# Altium schematic symbol library con-3m.SCHLIB: 46 symbols
Pins are listed as number, name and electrical type; pins without a type are passive.

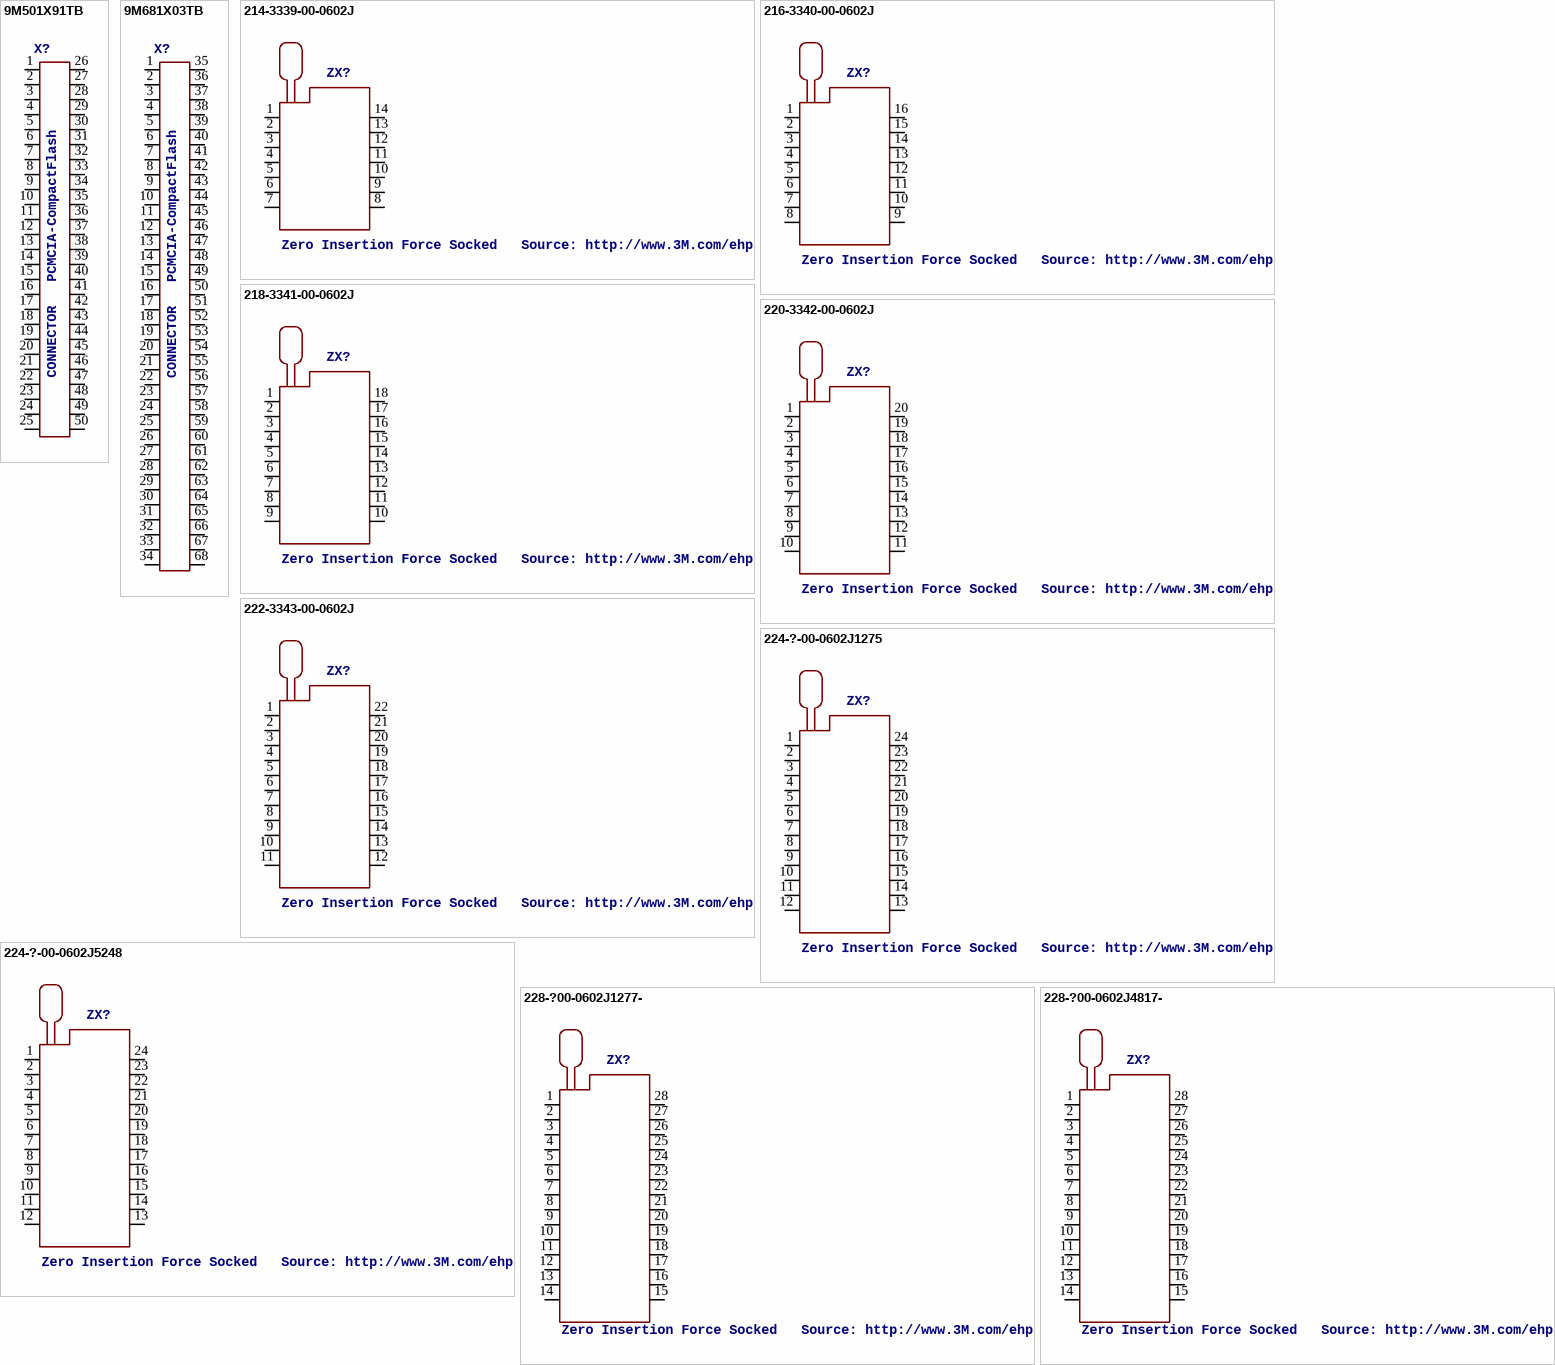
[diagram p0: symbols 9M501X91TB to 228-?00-0602J4817-]

## 9M501X91TB
designator X?, comment CONNECTOR   PCMCIA-CompactFlash
OC_FARNELL: unknown; OC_NEWARK: unknown
footprint 9M501X91
pins: 1, 2, 3, 4, 5, 6, 7, 8, 9, 10, 11, 12, 13, 14, 15, 16, 17, 18, 19, 20, 21, 22, 23, 24, 25, 26, 27, 28, 29, 30, 31, 32, 33, 34, 35, 36, 37, 38, 39, 40, 41, 42, 43, 44, 45, 46, 47, 48, 49, 50

## 9M681X03TB
designator X?, comment CONNECTOR   PCMCIA-CompactFlash
OC_FARNELL: unknown; OC_NEWARK: unknown
footprint 9M681X03
pins: 1, 2, 3, 4, 5, 6, 7, 8, 9, 10, 11, 12, 13, 14, 15, 16, 17, 18, 19, 20, 21, 22, 23, 24, 25, 26, 27, 28, 29, 30, 31, 32, 33, 34, 35, 36, 37, 38, 39, 40, 41, 42, 43, 44, 45, 46, 47, 48, 49, 50, 51, 52, 53, 54, 55, 56, 57, 58, 59, 60, 61, 62, 63, 64, 65, 66, 67, 68

## 214-3339-00-0602J
designator ZX?, comment Zero Insertion Force Socked   Source: http://www.3M.com/ehpd
MPN: 214-3339-00-0602J; MF: 3M; OC_FARNELL: 1247151; OC_NEWARK: 85K7793
footprint 214-3339-00-0602J
pins: 1, 2, 3, 4, 5, 6, 7, 8, 9, 10, 11, 12, 13, 14

## 216-3340-00-0602J
designator ZX?, comment Zero Insertion Force Socked   Source: http://www.3M.com/ehpd
MPN: 216-3340-00-0602J; MF: 3M; OC_FARNELL: 1674399; OC_NEWARK: 85K7797
footprint 216-3340-00-0602J
pins: 1, 2, 3, 4, 5, 6, 7, 8, 9, 10, 11, 12, 13, 14, 15, 16

## 218-3341-00-0602J
designator ZX?, comment Zero Insertion Force Socked   Source: http://www.3M.com/ehpd
MPN: 218-3341-00-0602J; MF: 3M; OC_FARNELL: 9897461; OC_NEWARK: 85K7802
footprint 218-3341-00-0602J
pins: 1, 2, 3, 4, 5, 6, 7, 8, 9, 10, 11, 12, 13, 14, 15, 16, 17, 18

## 220-3342-00-0602J
designator ZX?, comment Zero Insertion Force Socked   Source: http://www.3M.com/ehpd
MPN: 220-3342-00-0602J; MF: 3M; OC_FARNELL: 9897445; OC_NEWARK: 85K7807
footprint 220-3342-00-0602J
pins: 1, 2, 3, 4, 5, 6, 7, 8, 9, 10, 11, 12, 13, 14, 15, 16, 17, 18, 19, 20

## 222-3343-00-0602J
designator ZX?, comment Zero Insertion Force Socked   Source: http://www.3M.com/ehpd
MPN: 222-3343-00-0602J; MF: 3M; OC_FARNELL: unknown; OC_NEWARK: 85K7811
footprint 222-3343-00-0602J
pins: 1, 2, 3, 4, 5, 6, 7, 8, 9, 10, 11, 12, 13, 14, 15, 16, 17, 18, 19, 20, 21, 22

## 224-?-00-0602J1275
designator ZX?, comment Zero Insertion Force Socked   Source: http://www.3M.com/ehpd
MPN: 224-1275-00-0602J; MF: 3M; OC_FARNELL: 9897348; OC_NEWARK: 10C2549
footprint 224-1275-00-0602J
pins: 1, 2, 3, 4, 5, 6, 7, 8, 9, 10, 11, 12, 13, 14, 15, 16, 17, 18, 19, 20, 21, 22, 23, 24

## 224-?-00-0602J5248
designator ZX?, comment Zero Insertion Force Socked   Source: http://www.3M.com/ehpd
MPN: 224-5248-00-0602J; MF: 3M; OC_FARNELL: unknown; OC_NEWARK: 85K7820
footprint 224-5248-00-0602J
pins: 1, 2, 3, 4, 5, 6, 7, 8, 9, 10, 11, 12, 13, 14, 15, 16, 17, 18, 19, 20, 21, 22, 23, 24

## 228-?00-0602J1277-
designator ZX?, comment Zero Insertion Force Socked   Source: http://www.3M.com/ehpd
MPN: 228-1277-00-0602J; MF: 3M; OC_FARNELL: 9897356; OC_NEWARK: 85K7825
footprint 228-1277-00-0602J
pins: 1, 2, 3, 4, 5, 6, 7, 8, 9, 10, 11, 12, 13, 14, 15, 16, 17, 18, 19, 20, 21, 22, 23, 24, 25, 26, 27, 28

## 228-?00-0602J4817-
designator ZX?, comment Zero Insertion Force Socked   Source: http://www.3M.com/ehpd
MPN: 228-4817-00-0602J; MF: 3M; OC_FARNELL: 1252775; OC_NEWARK: 85K7834
footprint 228-4817-00-0602J
pins: 1, 2, 3, 4, 5, 6, 7, 8, 9, 10, 11, 12, 13, 14, 15, 16, 17, 18, 19, 20, 21, 22, 23, 24, 25, 26, 27, 28

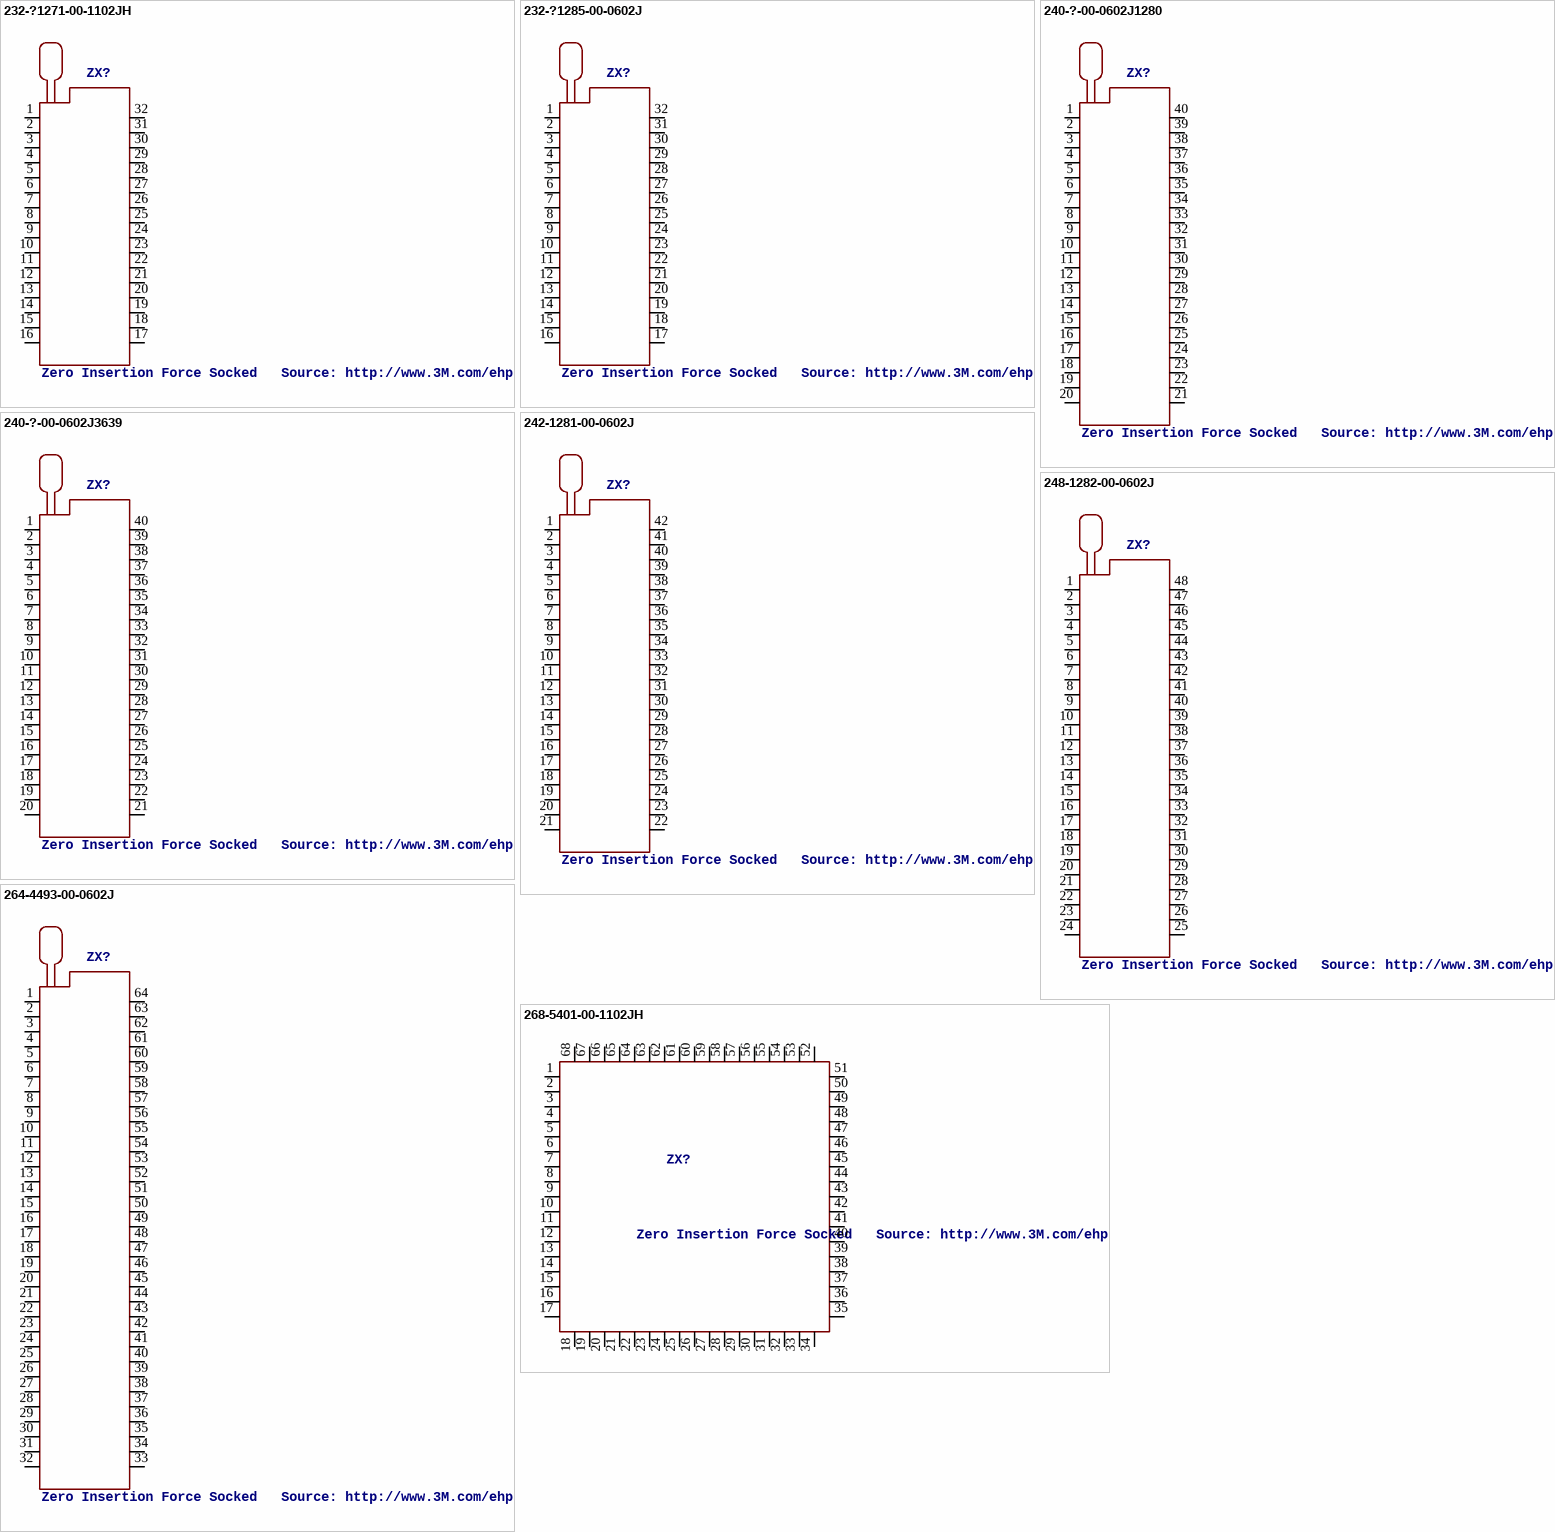
[diagram p1: symbols 232-?1271-00-1102JH to 268-5401-00-1102JH]

## 232-?1271-00-1102JH
designator ZX?, comment Zero Insertion Force Socked   Source: http://www.3M.com/ehpd
MPN: 232-1271-00-1102JH; OC_FARNELL: unknown; OC_NEWARK: 80R8874
footprint 232-1271-00-1102JH
pins: 1, 2, 3, 4, 5, 6, 7, 8, 9, 10, 11, 12, 13, 14, 15, 16, 17, 18, 19, 20, 21, 22, 23, 24, 25, 26, 27, 28, 29, 30, 31, 32

## 232-?1285-00-0602J
designator ZX?, comment Zero Insertion Force Socked   Source: http://www.3M.com/ehpd
MPN: 232-1285-00-0602J; MF: 3M; OC_FARNELL: 9897402; OC_NEWARK: 85K7839
footprint 232-1285-00-0602J
pins: 1, 2, 3, 4, 5, 6, 7, 8, 9, 10, 11, 12, 13, 14, 15, 16, 17, 18, 19, 20, 21, 22, 23, 24, 25, 26, 27, 28, 29, 30, 31, 32

## 240-?-00-0602J1280
designator ZX?, comment Zero Insertion Force Socked   Source: http://www.3M.com/ehpd
MPN: 240-1280-00-0602J; MF: 3M; OC_FARNELL: 9897364; OC_NEWARK: 85K7848
footprint 240-1280-00-0602J
pins: 1, 2, 3, 4, 5, 6, 7, 8, 9, 10, 11, 12, 13, 14, 15, 16, 17, 18, 19, 20, 21, 22, 23, 24, 25, 26, 27, 28, 29, 30, 31, 32, 33, 34, 35, 36, 37, 38, 39, 40

## 240-?-00-0602J3639
designator ZX?, comment Zero Insertion Force Socked   Source: http://www.3M.com/ehpd
MPN: 240-3639-00-0602J; MF: 3M; OC_FARNELL: unknown; OC_NEWARK: 85K7854
footprint 240-3639-00-0602J
pins: 1, 2, 3, 4, 5, 6, 7, 8, 9, 10, 11, 12, 13, 14, 15, 16, 17, 18, 19, 20, 21, 22, 23, 24, 25, 26, 27, 28, 29, 30, 31, 32, 33, 34, 35, 36, 37, 38, 39, 40

## 242-1281-00-0602J
designator ZX?, comment Zero Insertion Force Socked   Source: http://www.3M.com/ehpd
MPN: 242-1281-00-0602J; MF: 3M; OC_FARNELL: unknown; OC_NEWARK: 85K7857
footprint 242-1281-00-0602J
pins: 1, 2, 3, 4, 5, 6, 7, 8, 9, 10, 11, 12, 13, 14, 15, 16, 17, 18, 19, 20, 21, 22, 23, 24, 25, 26, 27, 28, 29, 30, 31, 32, 33, 34, 35, 36, 37, 38, 39, 40, 41, 42

## 248-1282-00-0602J
designator ZX?, comment Zero Insertion Force Socked   Source: http://www.3M.com/ehpd
MPN: 248-1282-00-0602J; MF: 3M; OC_FARNELL: 9897488; OC_NEWARK: 85K7866
footprint 248-1282-00-0602J
pins: 1, 2, 3, 4, 5, 6, 7, 8, 9, 10, 11, 12, 13, 14, 15, 16, 17, 18, 19, 20, 21, 22, 23, 24, 25, 26, 27, 28, 29, 30, 31, 32, 33, 34, 35, 36, 37, 38, 39, 40, 41, 42, 43, 44, 45, 46, 47, 48

## 264-4493-00-0602J
designator ZX?, comment Zero Insertion Force Socked   Source: http://www.3M.com/ehpd
MPN: 264-4493-00-0602J; MF: 3M; OC_FARNELL: 1254441; OC_NEWARK: 85K7875
footprint 264-4493-00-0602J
pins: 1, 2, 3, 4, 5, 6, 7, 8, 9, 10, 11, 12, 13, 14, 15, 16, 17, 18, 19, 20, 21, 22, 23, 24, 25, 26, 27, 28, 29, 30, 31, 32, 33, 34, 35, 36, 37, 38, 39, 40, 41, 42, 43, 44, 45, 46, 47, 48, 49, 50, 51, 52, 53, 54, 55, 56, 57, 58, 59, 60, 61, 62, 63, 64

## 268-5401-00-1102JH
designator ZX?, comment Zero Insertion Force Socked   Source: http://www.3M.com/ehpd
MPN: 268-5401-00-1102JH; OC_FARNELL: unknown; OC_NEWARK: 42M9902
footprint 268-5401-00-1102JH
pins: 1, 2, 3, 4, 5, 6, 7, 8, 9, 10, 11, 12, 13, 14, 15, 16, 17, 18, 19, 20, 21, 22, 23, 24, 25, 26, 27, 28, 29, 30, 31, 32, 33, 34, 35, 36, 37, 38, 39, 40, 41, 42, 43, 44, 45, 46, 47, 48, 49, 50, 51, 52, 53, 54, 55, 56, 57, 58, 59, 60, 61, 62, 63, 64, 65, 66, 67, 68

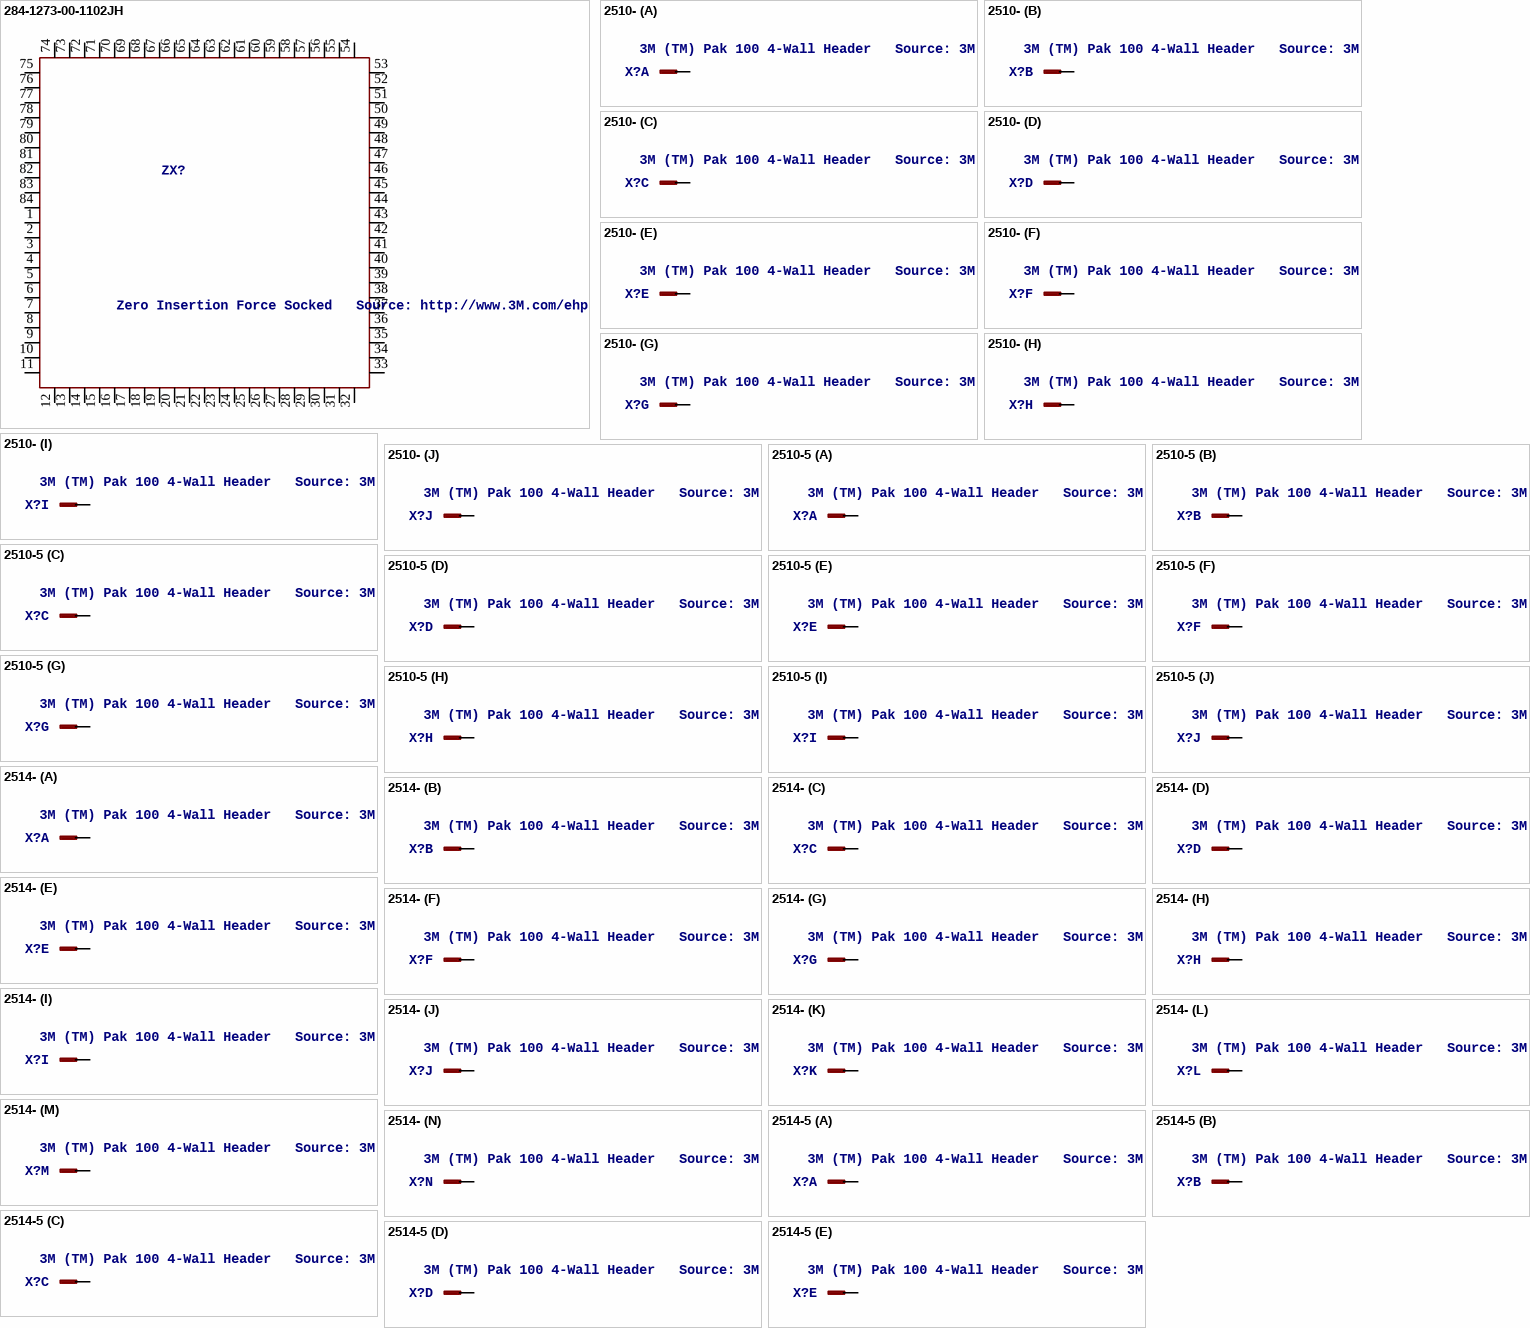
[diagram p2: symbols 284-1273-00-1102JH to 2514-5]

## 284-1273-00-1102JH
designator ZX?, comment Zero Insertion Force Socked   Source: http://www.3M.com/ehpd
OC_FARNELL: unknown; OC_NEWARK: unknown
footprint 284-1273-00-1102JH
pins: 1, 2, 3, 4, 5, 6, 7, 8, 9, 10, 11, 12, 13, 14, 15, 16, 17, 18, 19, 20, 21, 22, 23, 24, 25, 26, 27, 28, 29, 30, 31, 32, 33, 34, 35, 36, 37, 38, 39, 40, 41, 42, 43, 44, 45, 46, 47, 48, 49, 50, 51, 52, 53, 54, 55, 56, 57, 58, 59, 60, 61, 62, 63, 64, 65, 66, 67, 68, 69, 70, 71, 72, 73, 74, 75, 76, 77, 78, 79, 80, 81, 82, 83, 84

## 2510-
designator X?, comment 3M (TM) Pak 100 4-Wall Header   Source: 3M
MPN: 2510-6002UB; MF: 3M; OC_FARNELL: 9838244; OC_NEWARK: 46F4725
footprint PAK100/2500-10
part A pins: 1 KL
part B pins: 2 KL
part C pins: 3 KL
part D pins: 4 KL
part E pins: 5 KL
part F pins: 6 KL
part G pins: 7 KL
part H pins: 8 KL
part I pins: 9 KL
part J pins: 10 KL

## 2510-5
designator X?, comment 3M (TM) Pak 100 4-Wall Header   Source: 3M
OC_FARNELL: 1788669; OC_NEWARK: unknown
footprint PAK100/2500-5-10
part A pins: 1 KL
part B pins: 2 KL
part C pins: 3 KL
part D pins: 4 KL
part E pins: 5 KL
part F pins: 6 KL
part G pins: 7 KL
part H pins: 8 KL
part I pins: 9 KL
part J pins: 10 KL

## 2514-
designator X?, comment 3M (TM) Pak 100 4-Wall Header   Source: 3M
OC_FARNELL: unknown; OC_NEWARK: unknown
footprint PAK100/2500-14
part A pins: 1 KL
part B pins: 2 KL
part C pins: 3 KL
part D pins: 4 KL
part E pins: 5 KL
part F pins: 6 KL
part G pins: 7 KL
part H pins: 8 KL
part I pins: 9 KL
part J pins: 10 KL
part K pins: 11 KL
part L pins: 12 KL
part M pins: 13 KL
part N pins: 14 KL

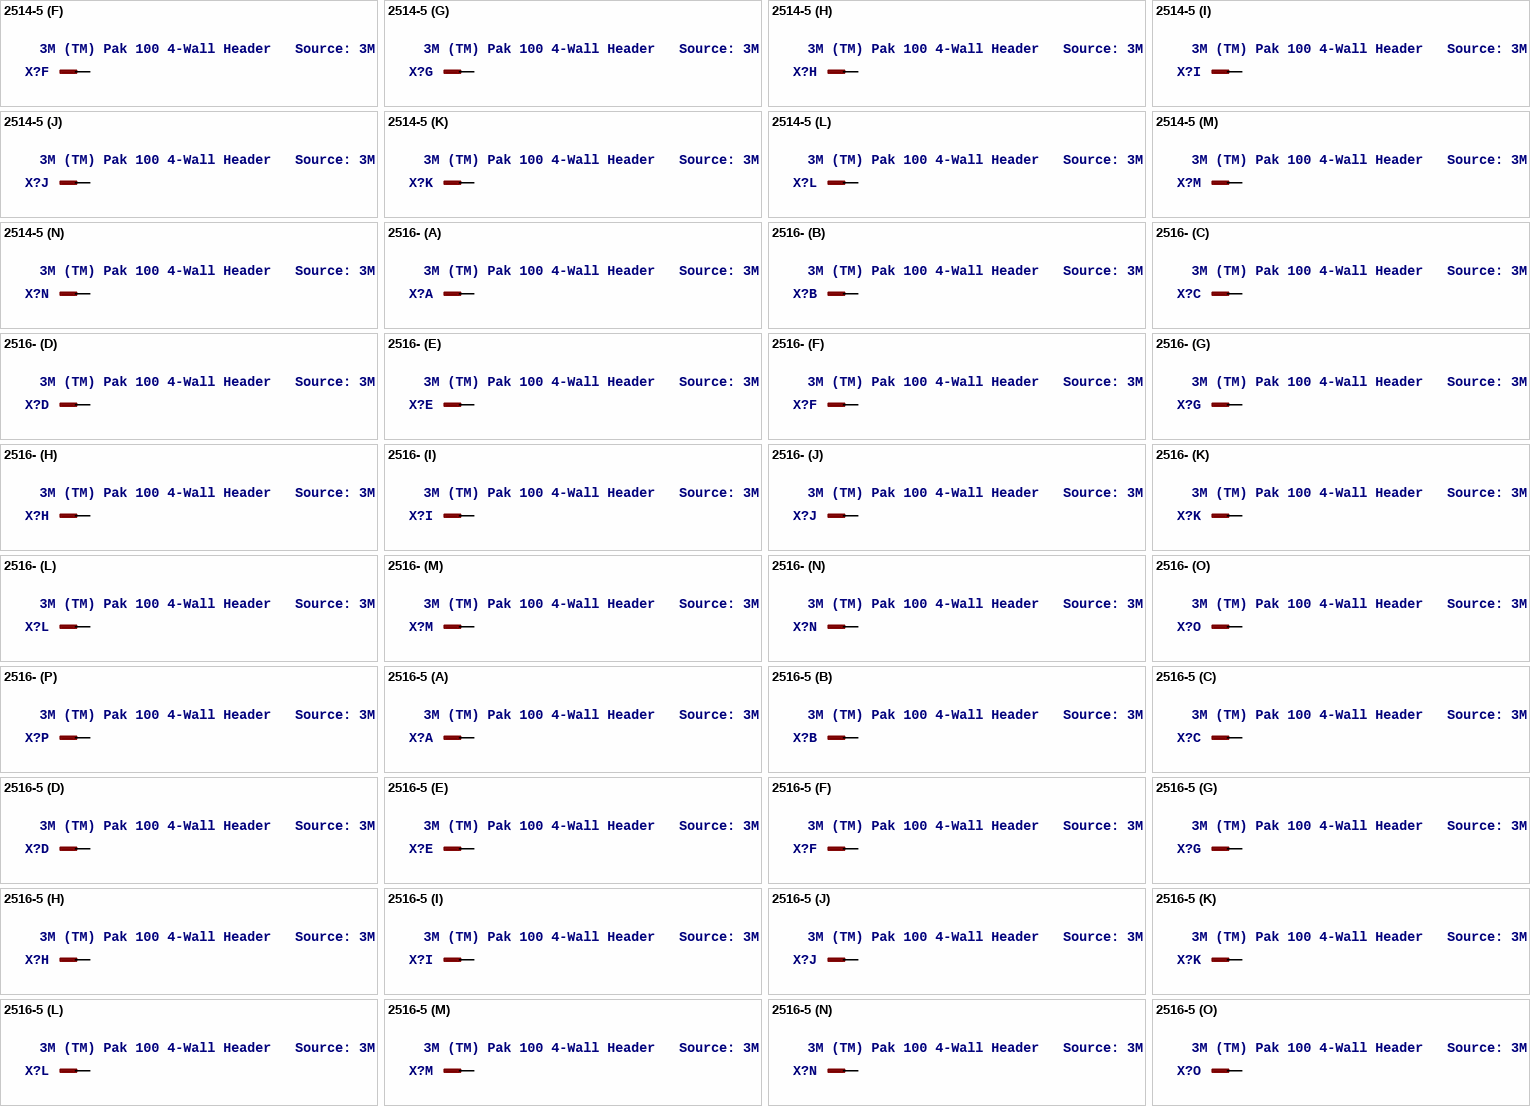
[diagram p3: symbols 2514-5 to 2516-5]

## 2514-5
designator X?, comment 3M (TM) Pak 100 4-Wall Header   Source: 3M
MPN: N2514-5002RB; OC_FARNELL: 1788673; OC_NEWARK: 97K6709
footprint PAK100/2500-5-14
part A pins: 1 KL
part B pins: 2 KL
part C pins: 3 KL
part D pins: 4 KL
part E pins: 5 KL
part F pins: 6 KL
part G pins: 7 KL
part H pins: 8 KL
part I pins: 9 KL
part J pins: 10 KL
part K pins: 11 KL
part L pins: 12 KL
part M pins: 13 KL
part N pins: 14 KL

## 2516-
designator X?, comment 3M (TM) Pak 100 4-Wall Header   Source: 3M
OC_FARNELL: unknown; OC_NEWARK: unknown
footprint PAK100/2500-16
part A pins: 1 KL
part B pins: 2 KL
part C pins: 3 KL
part D pins: 4 KL
part E pins: 5 KL
part F pins: 6 KL
part G pins: 7 KL
part H pins: 8 KL
part I pins: 9 KL
part J pins: 10 KL
part K pins: 11 KL
part L pins: 12 KL
part M pins: 13 KL
part N pins: 14 KL
part O pins: 15 KL
part P pins: 16 KL

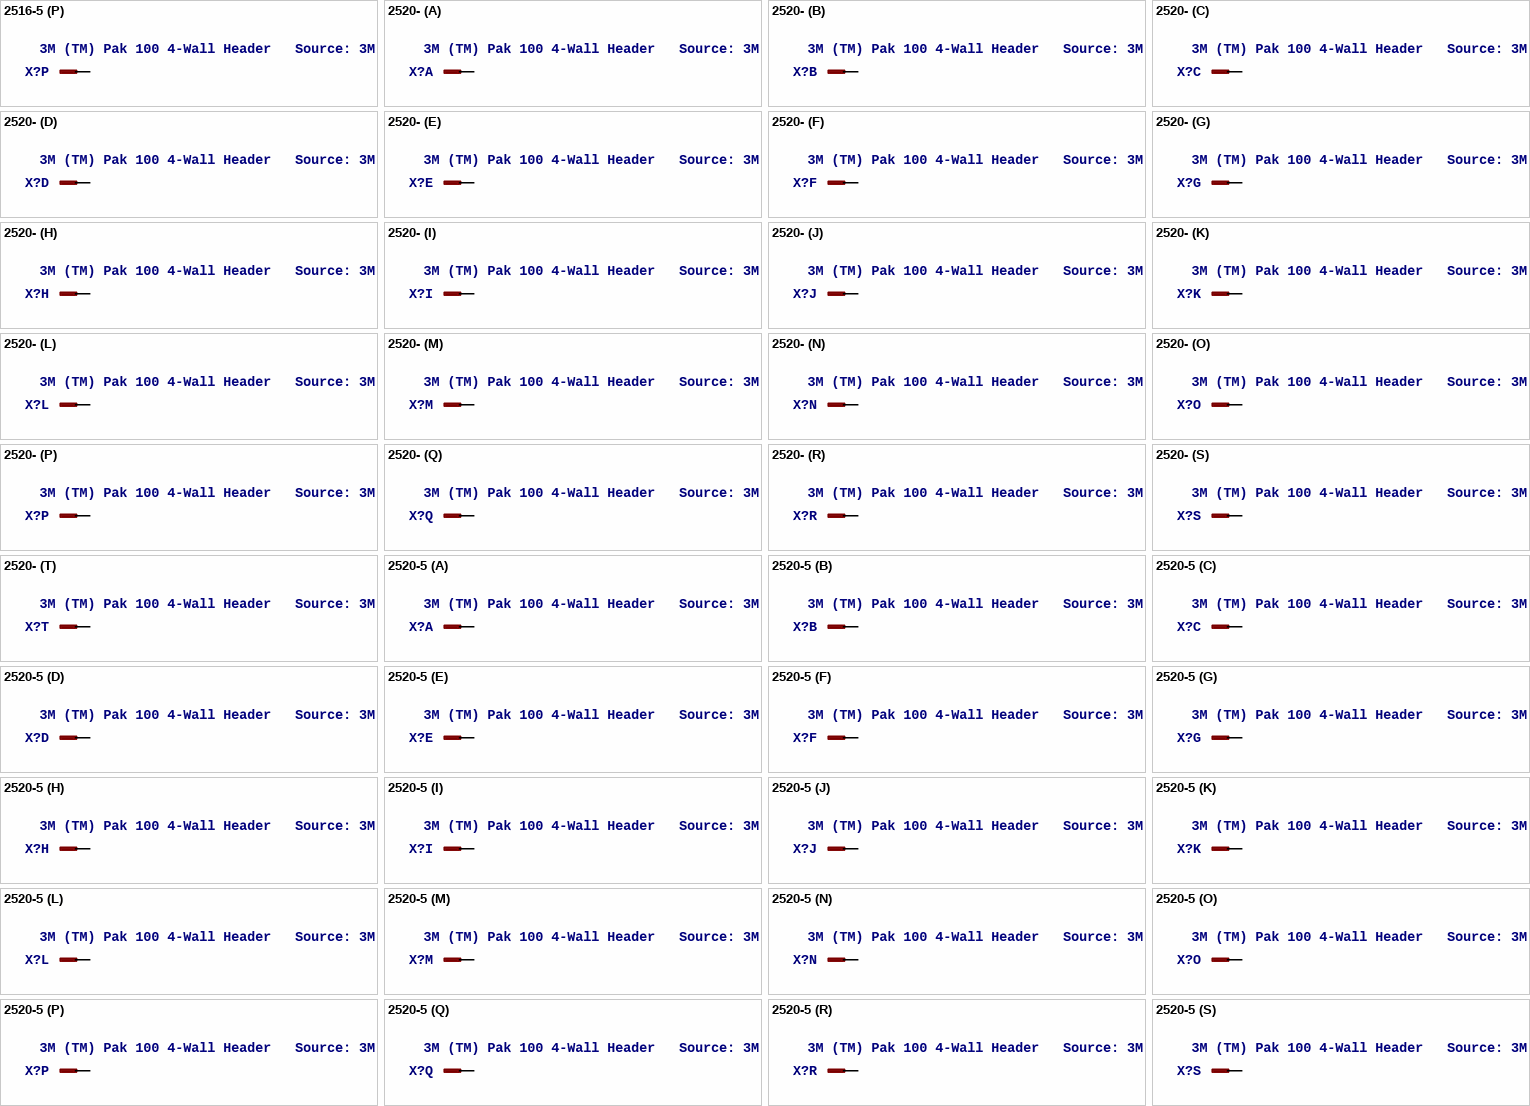
[diagram p4: symbols 2516-5 to 2520-5]

## 2516-5
designator X?, comment 3M (TM) Pak 100 4-Wall Header   Source: 3M
MPN: D2516-5002-AR; OC_FARNELL: 9838376; OC_NEWARK: 12P7055
footprint PAK100/2500-5-16
part A pins: 1 KL
part B pins: 2 KL
part C pins: 3 KL
part D pins: 4 KL
part E pins: 5 KL
part F pins: 6 KL
part G pins: 7 KL
part H pins: 8 KL
part I pins: 9 KL
part J pins: 10 KL
part K pins: 11 KL
part L pins: 12 KL
part M pins: 13 KL
part N pins: 14 KL
part O pins: 15 KL
part P pins: 16 KL

## 2520-
designator X?, comment 3M (TM) Pak 100 4-Wall Header   Source: 3M
OC_FARNELL: unknown; OC_NEWARK: unknown
footprint PAK100/2500-20
part A pins: 1 KL
part B pins: 2 KL
part C pins: 3 KL
part D pins: 4 KL
part E pins: 5 KL
part F pins: 6 KL
part G pins: 7 KL
part H pins: 8 KL
part I pins: 9 KL
part J pins: 10 KL
part K pins: 11 KL
part L pins: 12 KL
part M pins: 13 KL
part N pins: 14 KL
part O pins: 15 KL
part P pins: 16 KL
part Q pins: 17 KL
part R pins: 18 KL
part S pins: 19 KL
part T pins: 20 KL

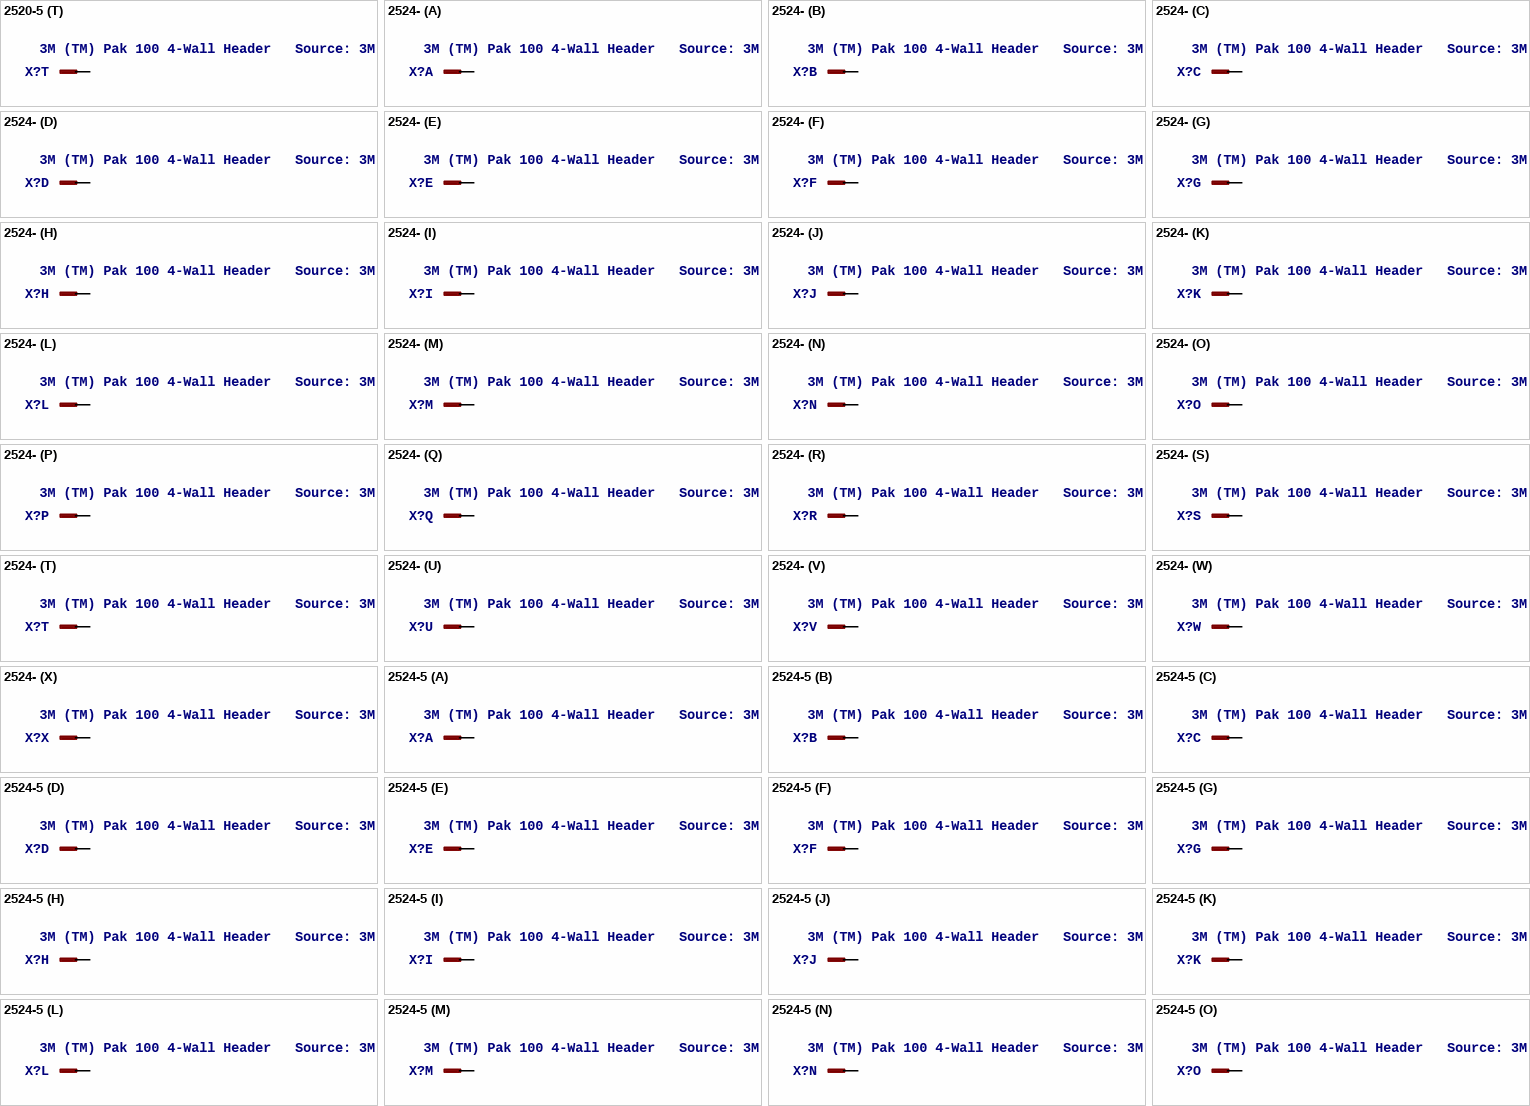
[diagram p5: symbols 2520-5 to 2524-5]

## 2520-5
designator X?, comment 3M (TM) Pak 100 4-Wall Header   Source: 3M
MPN: D2520-5002-AR; OC_FARNELL: unknown; OC_NEWARK: 12P7058
footprint PAK100/2500-5-20
part A pins: 1 KL
part B pins: 2 KL
part C pins: 3 KL
part D pins: 4 KL
part E pins: 5 KL
part F pins: 6 KL
part G pins: 7 KL
part H pins: 8 KL
part I pins: 9 KL
part J pins: 10 KL
part K pins: 11 KL
part L pins: 12 KL
part M pins: 13 KL
part N pins: 14 KL
part O pins: 15 KL
part P pins: 16 KL
part Q pins: 17 KL
part R pins: 18 KL
part S pins: 19 KL
part T pins: 20 KL

## 2524-
designator X?, comment 3M (TM) Pak 100 4-Wall Header   Source: 3M
OC_FARNELL: unknown; OC_NEWARK: unknown
footprint PAK100/2500-24
part A pins: 1 KL
part B pins: 2 KL
part C pins: 3 KL
part D pins: 4 KL
part E pins: 5 KL
part F pins: 6 KL
part G pins: 7 KL
part H pins: 8 KL
part I pins: 9 KL
part J pins: 10 KL
part K pins: 11 KL
part L pins: 12 KL
part M pins: 13 KL
part N pins: 14 KL
part O pins: 15 KL
part P pins: 16 KL
part Q pins: 17 KL
part R pins: 18 KL
part S pins: 19 KL
part T pins: 20 KL
part U pins: 21 KL
part V pins: 22 KL
part W pins: 23 KL
part X pins: 24 KL

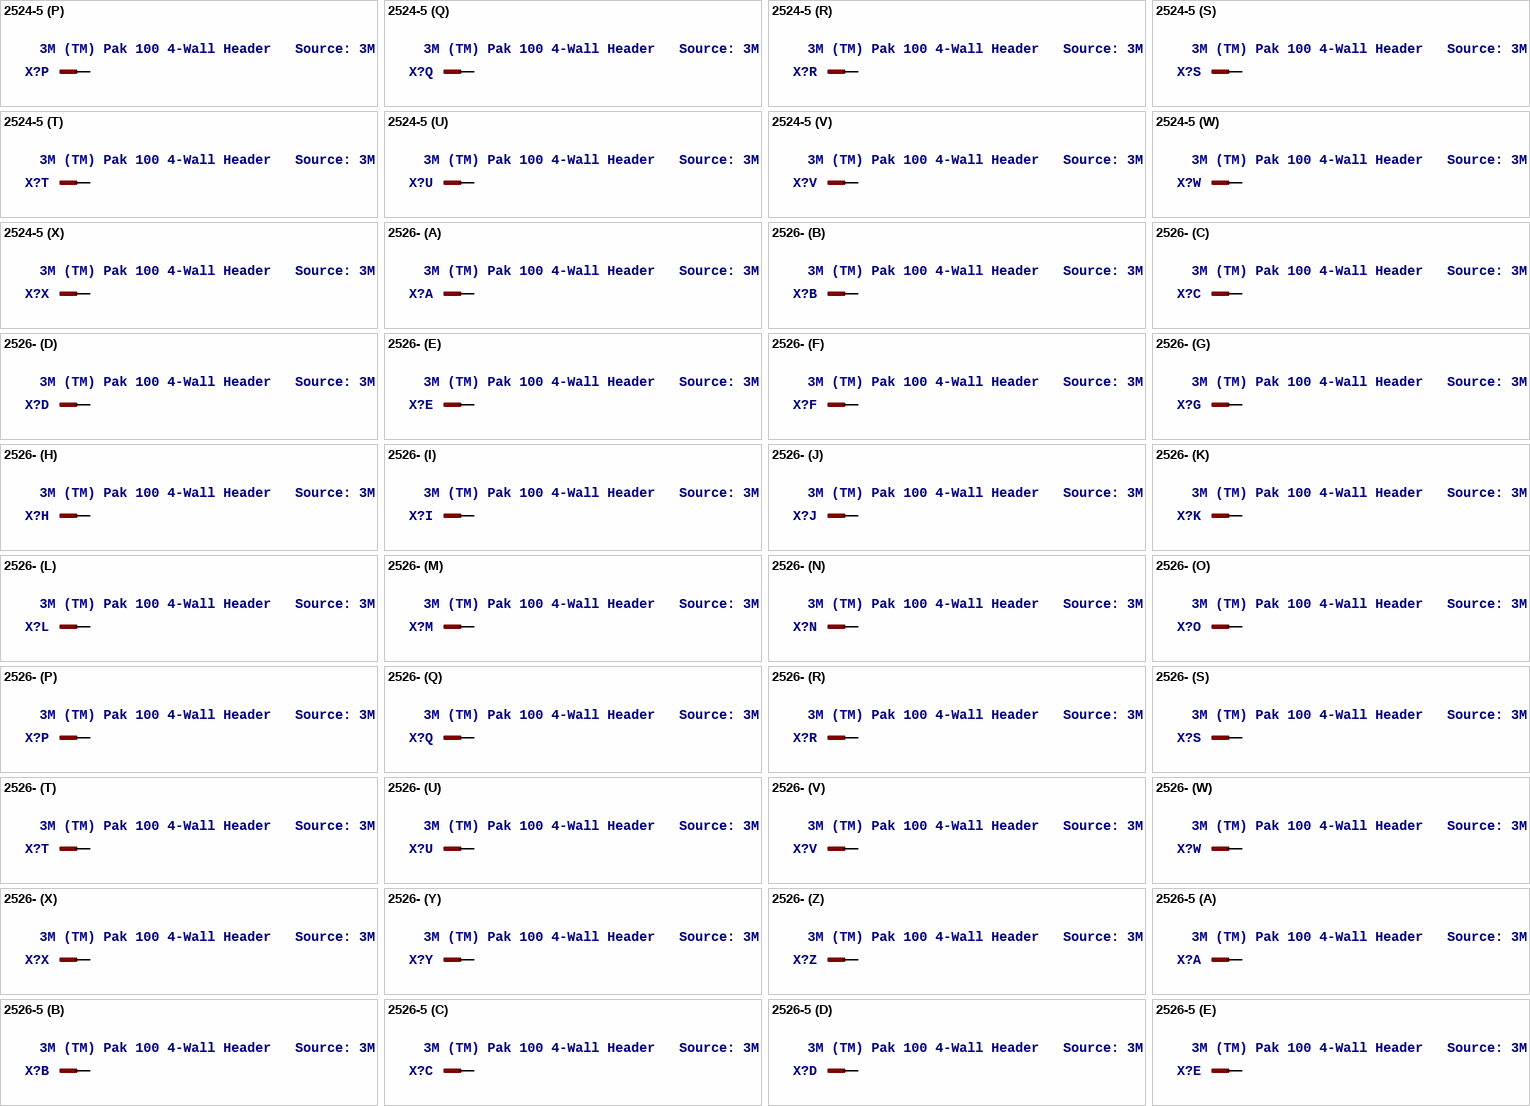
[diagram p6: symbols 2524-5 to 2526-5]

## 2524-5
designator X?, comment 3M (TM) Pak 100 4-Wall Header   Source: 3M
OC_FARNELL: 9838465; OC_NEWARK: unknown
footprint PAK100/2500-5-24
part A pins: 1 KL
part B pins: 2 KL
part C pins: 3 KL
part D pins: 4 KL
part E pins: 5 KL
part F pins: 6 KL
part G pins: 7 KL
part H pins: 8 KL
part I pins: 9 KL
part J pins: 10 KL
part K pins: 11 KL
part L pins: 12 KL
part M pins: 13 KL
part N pins: 14 KL
part O pins: 15 KL
part P pins: 16 KL
part Q pins: 17 KL
part R pins: 18 KL
part S pins: 19 KL
part T pins: 20 KL
part U pins: 21 KL
part V pins: 22 KL
part W pins: 23 KL
part X pins: 24 KL

## 2526-
designator X?, comment 3M (TM) Pak 100 4-Wall Header   Source: 3M
OC_FARNELL: unknown; OC_NEWARK: unknown
footprint PAK100/2500-26
part A pins: 1 KL
part B pins: 2 KL
part C pins: 3 KL
part D pins: 4 KL
part E pins: 5 KL
part F pins: 6 KL
part G pins: 7 KL
part H pins: 8 KL
part I pins: 9 KL
part J pins: 10 KL
part K pins: 11 KL
part L pins: 12 KL
part M pins: 13 KL
part N pins: 14 KL
part O pins: 15 KL
part P pins: 16 KL
part Q pins: 17 KL
part R pins: 18 KL
part S pins: 19 KL
part T pins: 20 KL
part U pins: 21 KL
part V pins: 22 KL
part W pins: 23 KL
part X pins: 24 KL
part Y pins: 25 KL
part Z pins: 26 KL

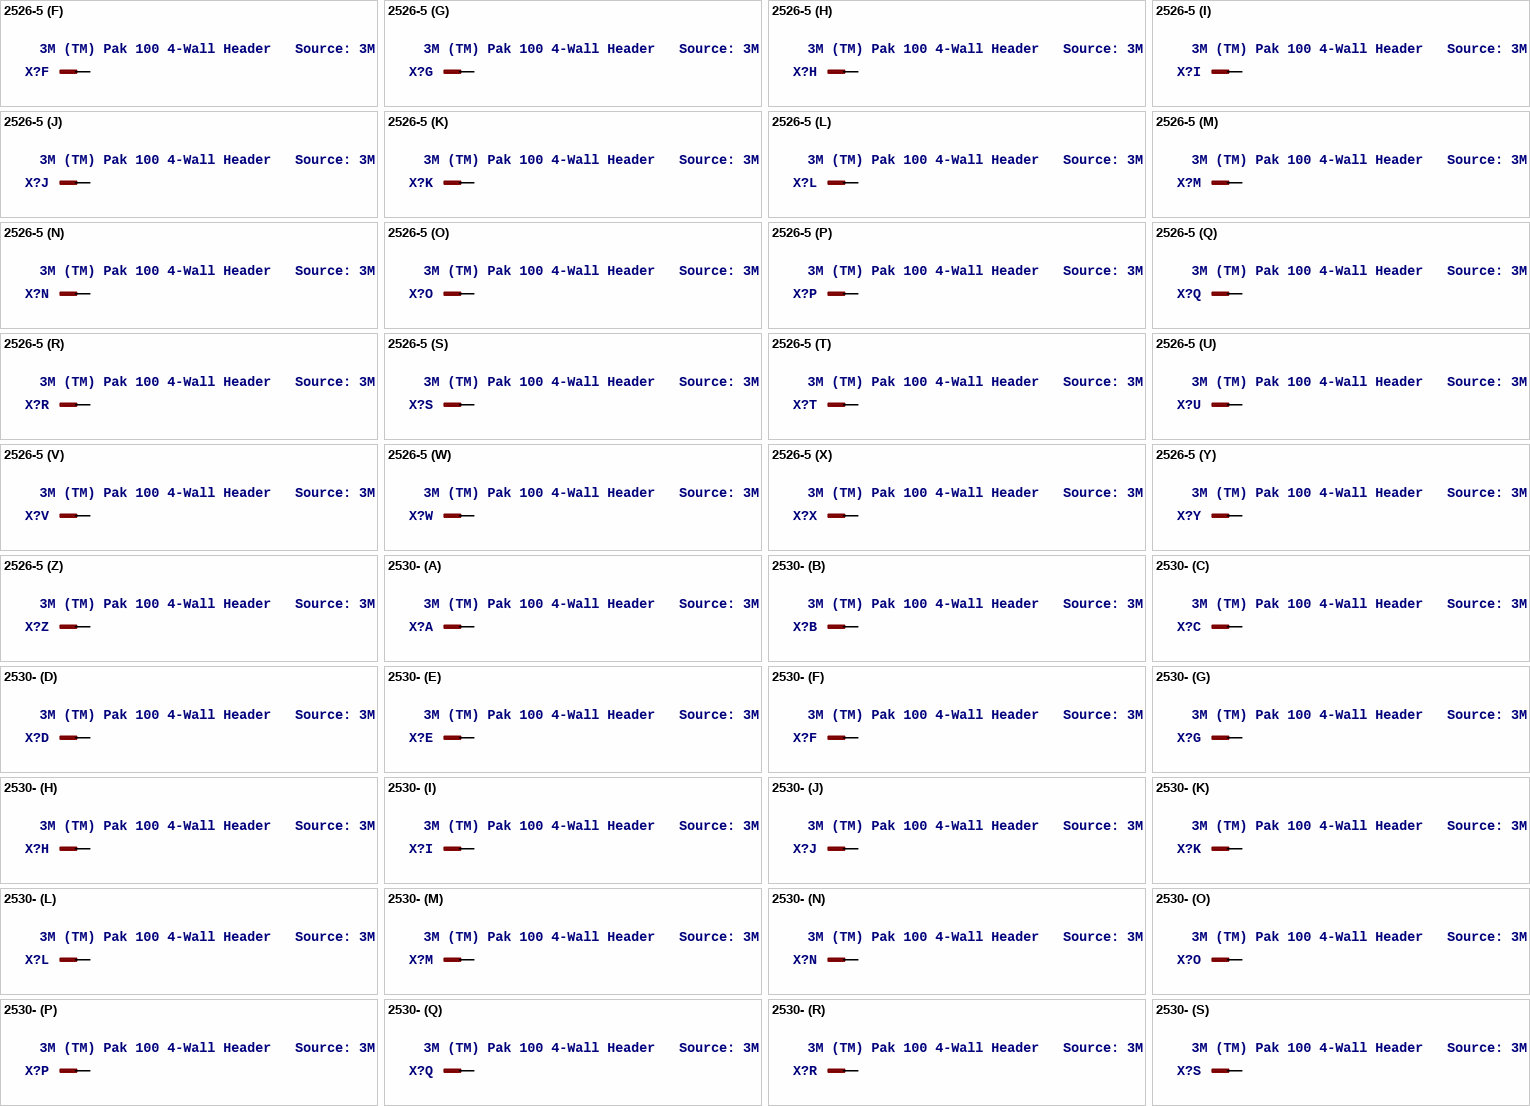
[diagram p7: symbols 2526-5 to 2530-]

## 2526-5
designator X?, comment 3M (TM) Pak 100 4-Wall Header   Source: 3M
OC_FARNELL: 9838392; OC_NEWARK: unknown
footprint PAK100/2500-5-26
part A pins: 1 KL
part B pins: 2 KL
part C pins: 3 KL
part D pins: 4 KL
part E pins: 5 KL
part F pins: 6 KL
part G pins: 7 KL
part H pins: 8 KL
part I pins: 9 KL
part J pins: 10 KL
part K pins: 11 KL
part L pins: 12 KL
part M pins: 13 KL
part N pins: 14 KL
part O pins: 15 KL
part P pins: 16 KL
part Q pins: 17 KL
part R pins: 18 KL
part S pins: 19 KL
part T pins: 20 KL
part U pins: 21 KL
part V pins: 22 KL
part W pins: 23 KL
part X pins: 24 KL
part Y pins: 25 KL
part Z pins: 26 KL

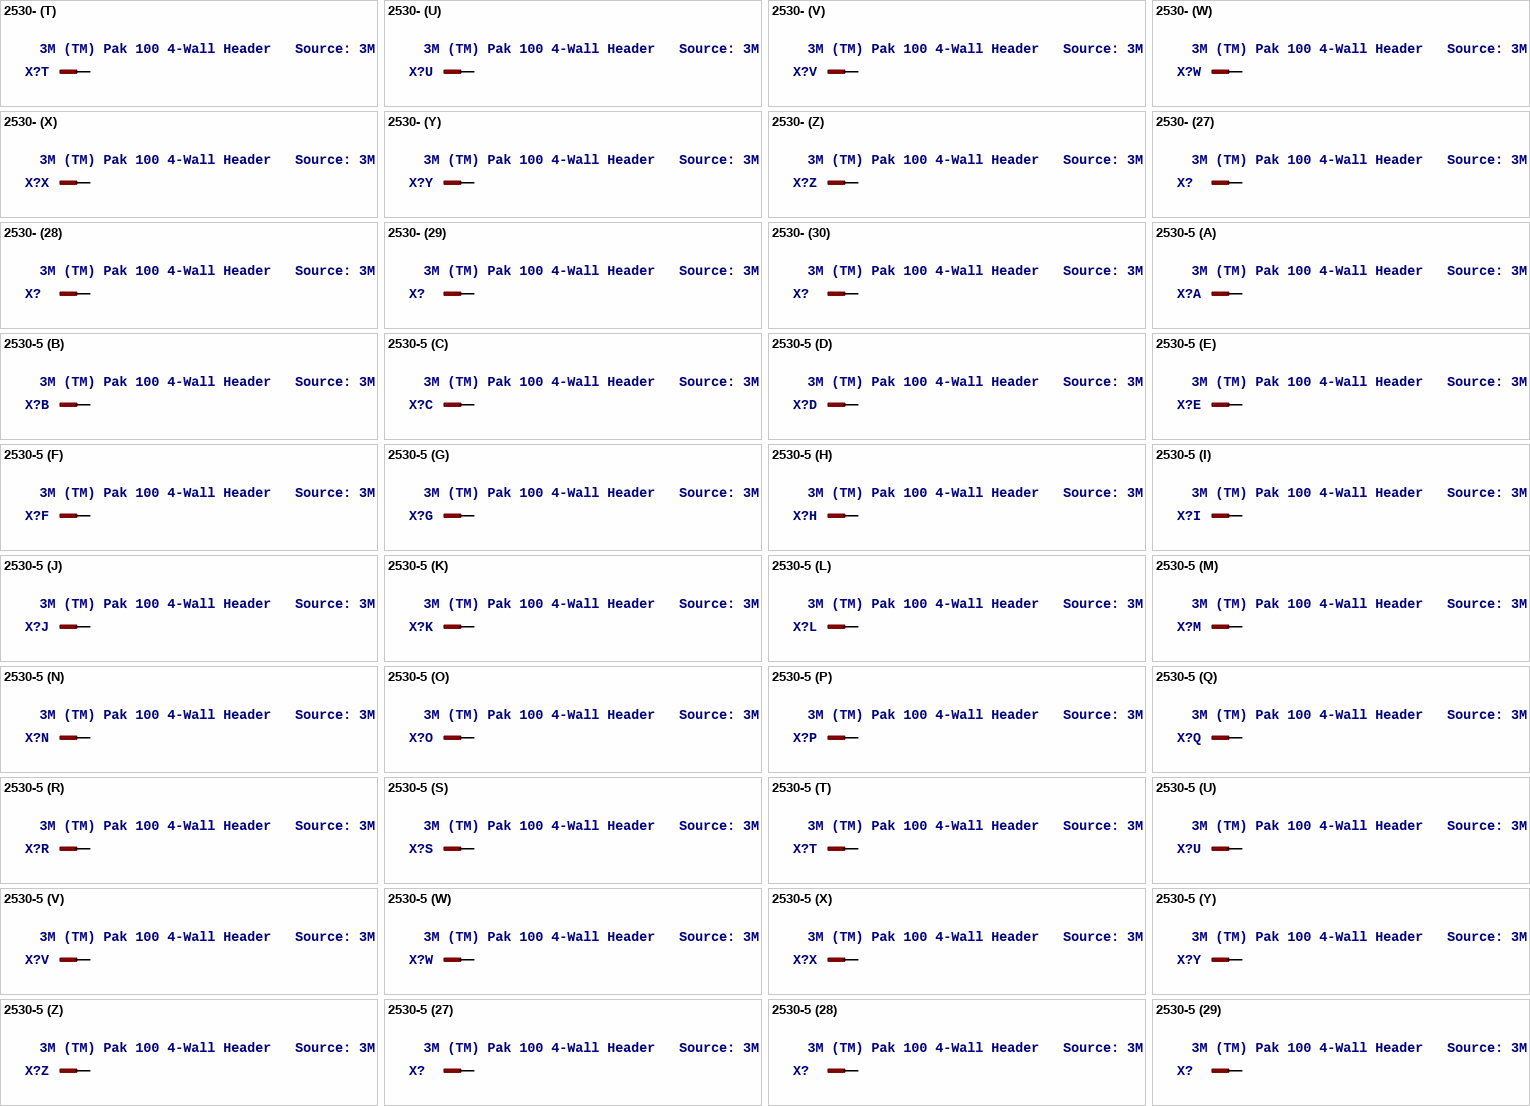
[diagram p8: symbols 2530- to 2530-5]

## 2530-
designator X?, comment 3M (TM) Pak 100 4-Wall Header   Source: 3M
OC_FARNELL: 1788688; OC_NEWARK: unknown
footprint PAK100/2500-30
part A pins: 1 KL
part B pins: 2 KL
part C pins: 3 KL
part D pins: 4 KL
part E pins: 5 KL
part F pins: 6 KL
part G pins: 7 KL
part H pins: 8 KL
part I pins: 9 KL
part J pins: 10 KL
part K pins: 11 KL
part L pins: 12 KL
part M pins: 13 KL
part N pins: 14 KL
part O pins: 15 KL
part P pins: 16 KL
part Q pins: 17 KL
part R pins: 18 KL
part S pins: 19 KL
part T pins: 20 KL
part U pins: 21 KL
part V pins: 22 KL
part W pins: 23 KL
part X pins: 24 KL
part Y pins: 25 KL
part Z pins: 26 KL
part 27 pins: 27 KL
part 28 pins: 28 KL
part 29 pins: 29 KL
part 30 pins: 30 KL

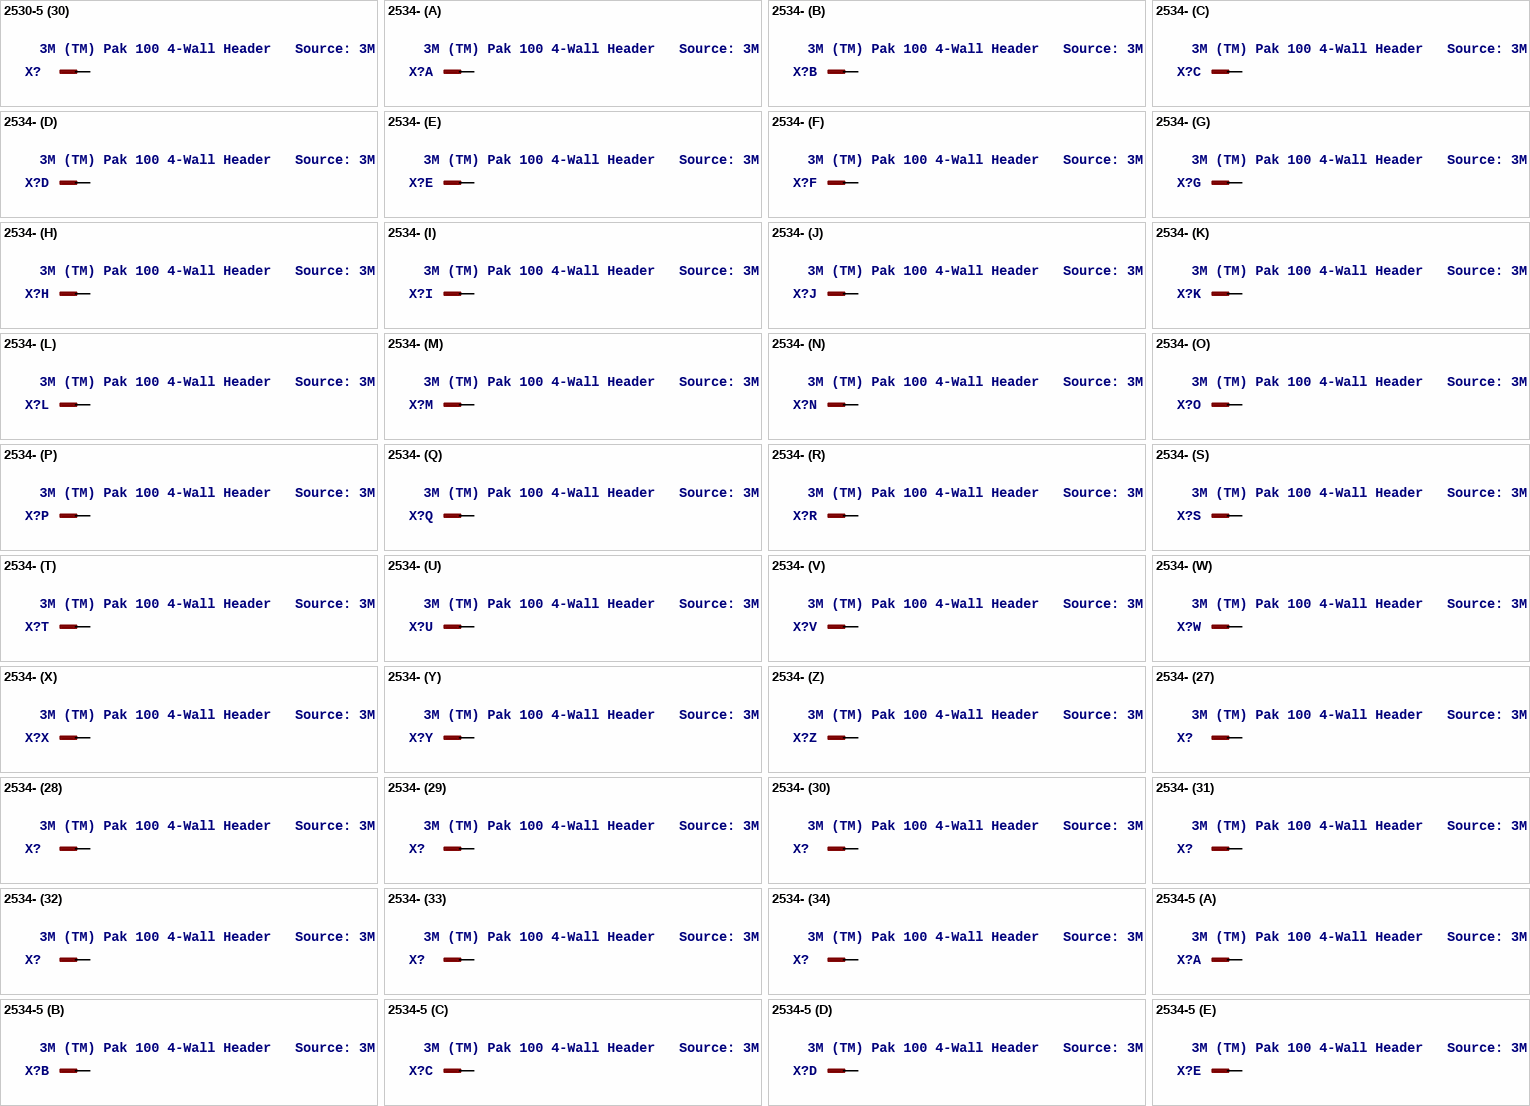
[diagram p9: symbols 2530-5 to 2534-5]

## 2530-5
designator X?, comment 3M (TM) Pak 100 4-Wall Header   Source: 3M
MPN: N2530-5002RB; MF: 3M; OC_FARNELL: 1788686; OC_NEWARK: 82K9519
footprint PAK100/2500-5-30
part A pins: 1 KL
part B pins: 2 KL
part C pins: 3 KL
part D pins: 4 KL
part E pins: 5 KL
part F pins: 6 KL
part G pins: 7 KL
part H pins: 8 KL
part I pins: 9 KL
part J pins: 10 KL
part K pins: 11 KL
part L pins: 12 KL
part M pins: 13 KL
part N pins: 14 KL
part O pins: 15 KL
part P pins: 16 KL
part Q pins: 17 KL
part R pins: 18 KL
part S pins: 19 KL
part T pins: 20 KL
part U pins: 21 KL
part V pins: 22 KL
part W pins: 23 KL
part X pins: 24 KL
part Y pins: 25 KL
part Z pins: 26 KL
part 27 pins: 27 KL
part 28 pins: 28 KL
part 29 pins: 29 KL
part 30 pins: 30 KL

## 2534-
designator X?, comment 3M (TM) Pak 100 4-Wall Header   Source: 3M
OC_FARNELL: unknown; OC_NEWARK: unknown
footprint PAK100/2500-34
part A pins: 1 KL
part B pins: 2 KL
part C pins: 3 KL
part D pins: 4 KL
part E pins: 5 KL
part F pins: 6 KL
part G pins: 7 KL
part H pins: 8 KL
part I pins: 9 KL
part J pins: 10 KL
part K pins: 11 KL
part L pins: 12 KL
part M pins: 13 KL
part N pins: 14 KL
part O pins: 15 KL
part P pins: 16 KL
part Q pins: 17 KL
part R pins: 18 KL
part S pins: 19 KL
part T pins: 20 KL
part U pins: 21 KL
part V pins: 22 KL
part W pins: 23 KL
part X pins: 24 KL
part Y pins: 25 KL
part Z pins: 26 KL
part 27 pins: 27 KL
part 28 pins: 28 KL
part 29 pins: 29 KL
part 30 pins: 30 KL
part 31 pins: 31 KL
part 32 pins: 32 KL
part 33 pins: 33 KL
part 34 pins: 34 KL

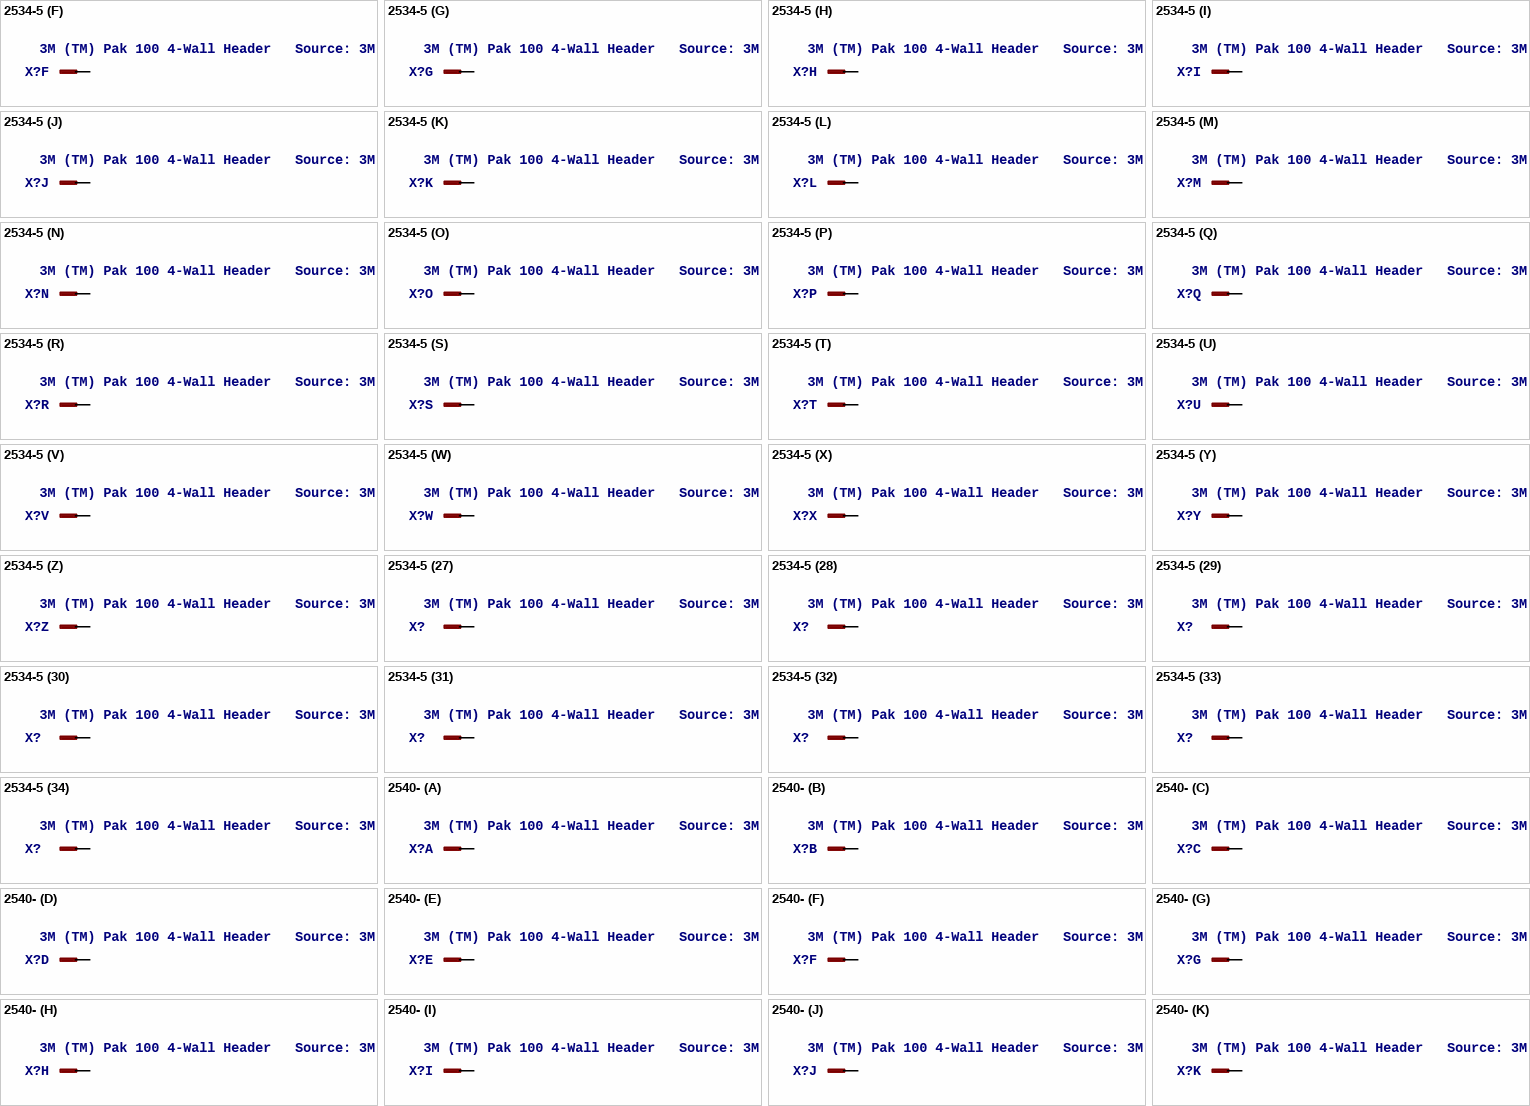
[diagram p10: symbols 2534-5 to 2540-]

## 2534-5
designator X?, comment 3M (TM) Pak 100 4-Wall Header   Source: 3M
OC_FARNELL: 9838406; OC_NEWARK: unknown
footprint PAK100/2500-5-34
part A pins: 1 KL
part B pins: 2 KL
part C pins: 3 KL
part D pins: 4 KL
part E pins: 5 KL
part F pins: 6 KL
part G pins: 7 KL
part H pins: 8 KL
part I pins: 9 KL
part J pins: 10 KL
part K pins: 11 KL
part L pins: 12 KL
part M pins: 13 KL
part N pins: 14 KL
part O pins: 15 KL
part P pins: 16 KL
part Q pins: 17 KL
part R pins: 18 KL
part S pins: 19 KL
part T pins: 20 KL
part U pins: 21 KL
part V pins: 22 KL
part W pins: 23 KL
part X pins: 24 KL
part Y pins: 25 KL
part Z pins: 26 KL
part 27 pins: 27 KL
part 28 pins: 28 KL
part 29 pins: 29 KL
part 30 pins: 30 KL
part 31 pins: 31 KL
part 32 pins: 32 KL
part 33 pins: 33 KL
part 34 pins: 34 KL

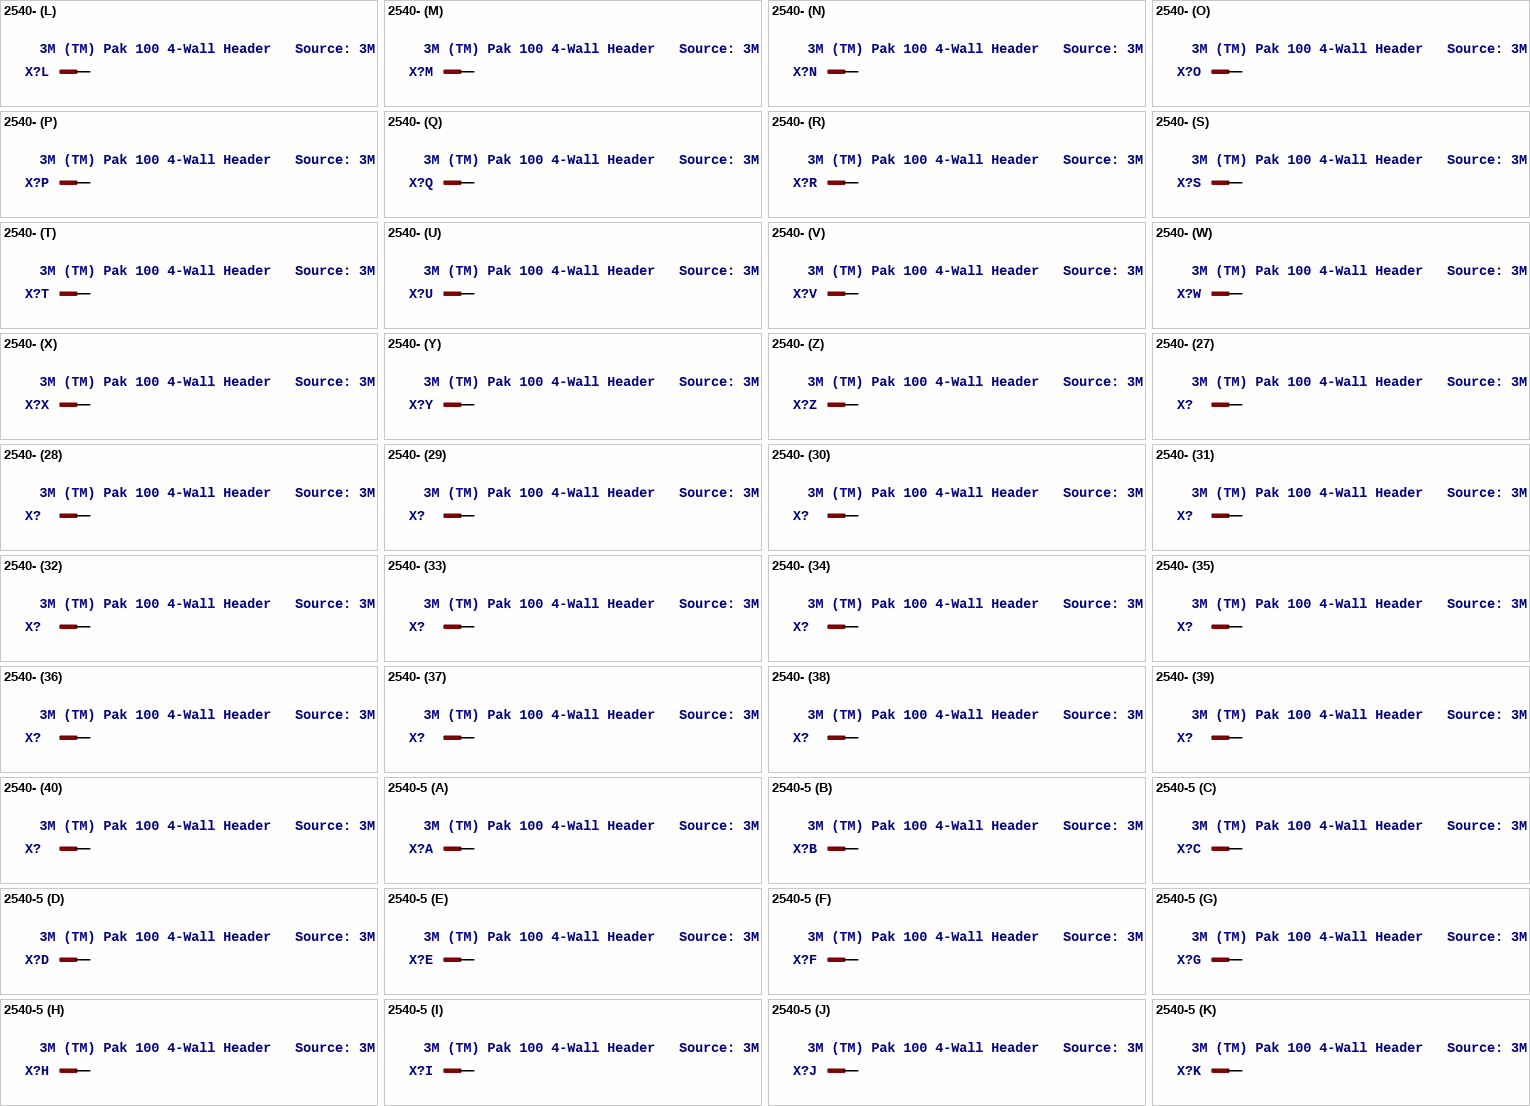
[diagram p11: symbols 2540- to 2540-5]

## 2540-
designator X?, comment 3M (TM) Pak 100 4-Wall Header   Source: 3M
OC_FARNELL: unknown; OC_NEWARK: unknown
footprint PAK100/2500-40
part A pins: 1 KL
part B pins: 2 KL
part C pins: 3 KL
part D pins: 4 KL
part E pins: 5 KL
part F pins: 6 KL
part G pins: 7 KL
part H pins: 8 KL
part I pins: 9 KL
part J pins: 10 KL
part K pins: 11 KL
part L pins: 12 KL
part M pins: 13 KL
part N pins: 14 KL
part O pins: 15 KL
part P pins: 16 KL
part Q pins: 17 KL
part R pins: 18 KL
part S pins: 19 KL
part T pins: 20 KL
part U pins: 21 KL
part V pins: 22 KL
part W pins: 23 KL
part X pins: 24 KL
part Y pins: 25 KL
part Z pins: 26 KL
part 27 pins: 27 KL
part 28 pins: 28 KL
part 29 pins: 29 KL
part 30 pins: 30 KL
part 31 pins: 31 KL
part 32 pins: 32 KL
part 33 pins: 33 KL
part 34 pins: 34 KL
part 35 pins: 35 KL
part 36 pins: 36 KL
part 37 pins: 37 KL
part 38 pins: 38 KL
part 39 pins: 39 KL
part 40 pins: 40 KL

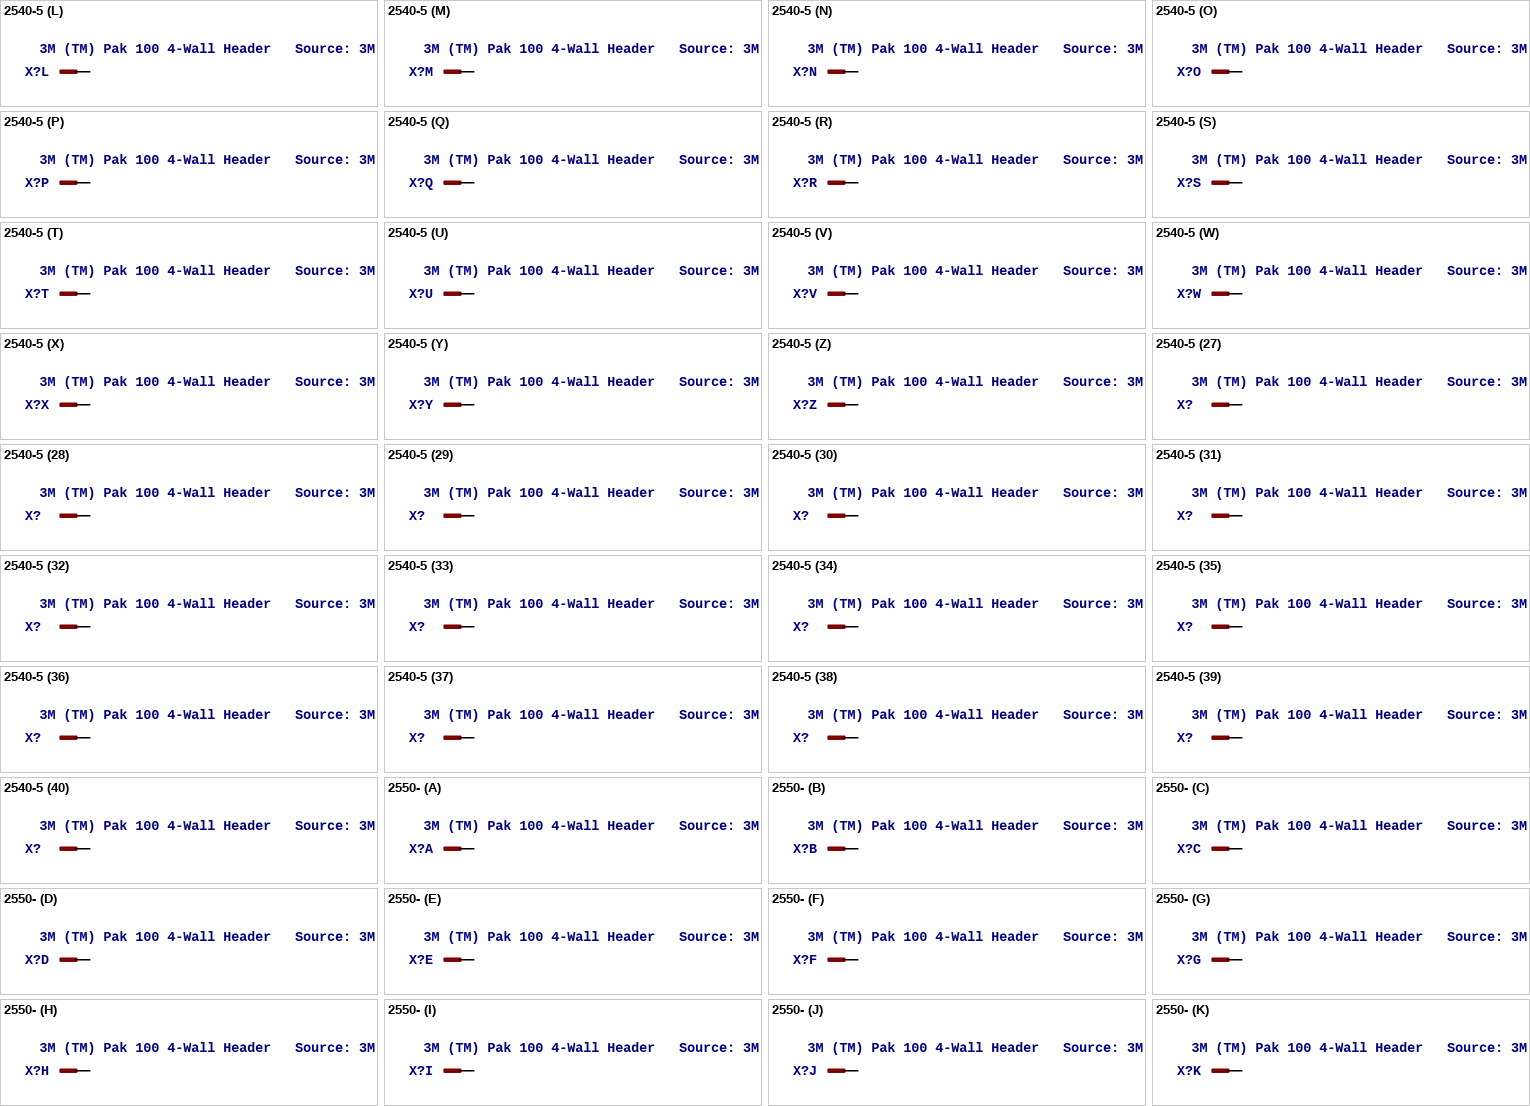
[diagram p12: symbols 2540-5 to 2550-]

## 2540-5
designator X?, comment 3M (TM) Pak 100 4-Wall Header   Source: 3M
OC_FARNELL: 9838414; OC_NEWARK: unknown
footprint PAK100/2500-5-40
part A pins: 1 KL
part B pins: 2 KL
part C pins: 3 KL
part D pins: 4 KL
part E pins: 5 KL
part F pins: 6 KL
part G pins: 7 KL
part H pins: 8 KL
part I pins: 9 KL
part J pins: 10 KL
part K pins: 11 KL
part L pins: 12 KL
part M pins: 13 KL
part N pins: 14 KL
part O pins: 15 KL
part P pins: 16 KL
part Q pins: 17 KL
part R pins: 18 KL
part S pins: 19 KL
part T pins: 20 KL
part U pins: 21 KL
part V pins: 22 KL
part W pins: 23 KL
part X pins: 24 KL
part Y pins: 25 KL
part Z pins: 26 KL
part 27 pins: 27 KL
part 28 pins: 28 KL
part 29 pins: 29 KL
part 30 pins: 30 KL
part 31 pins: 31 KL
part 32 pins: 32 KL
part 33 pins: 33 KL
part 34 pins: 34 KL
part 35 pins: 35 KL
part 36 pins: 36 KL
part 37 pins: 37 KL
part 38 pins: 38 KL
part 39 pins: 39 KL
part 40 pins: 40 KL

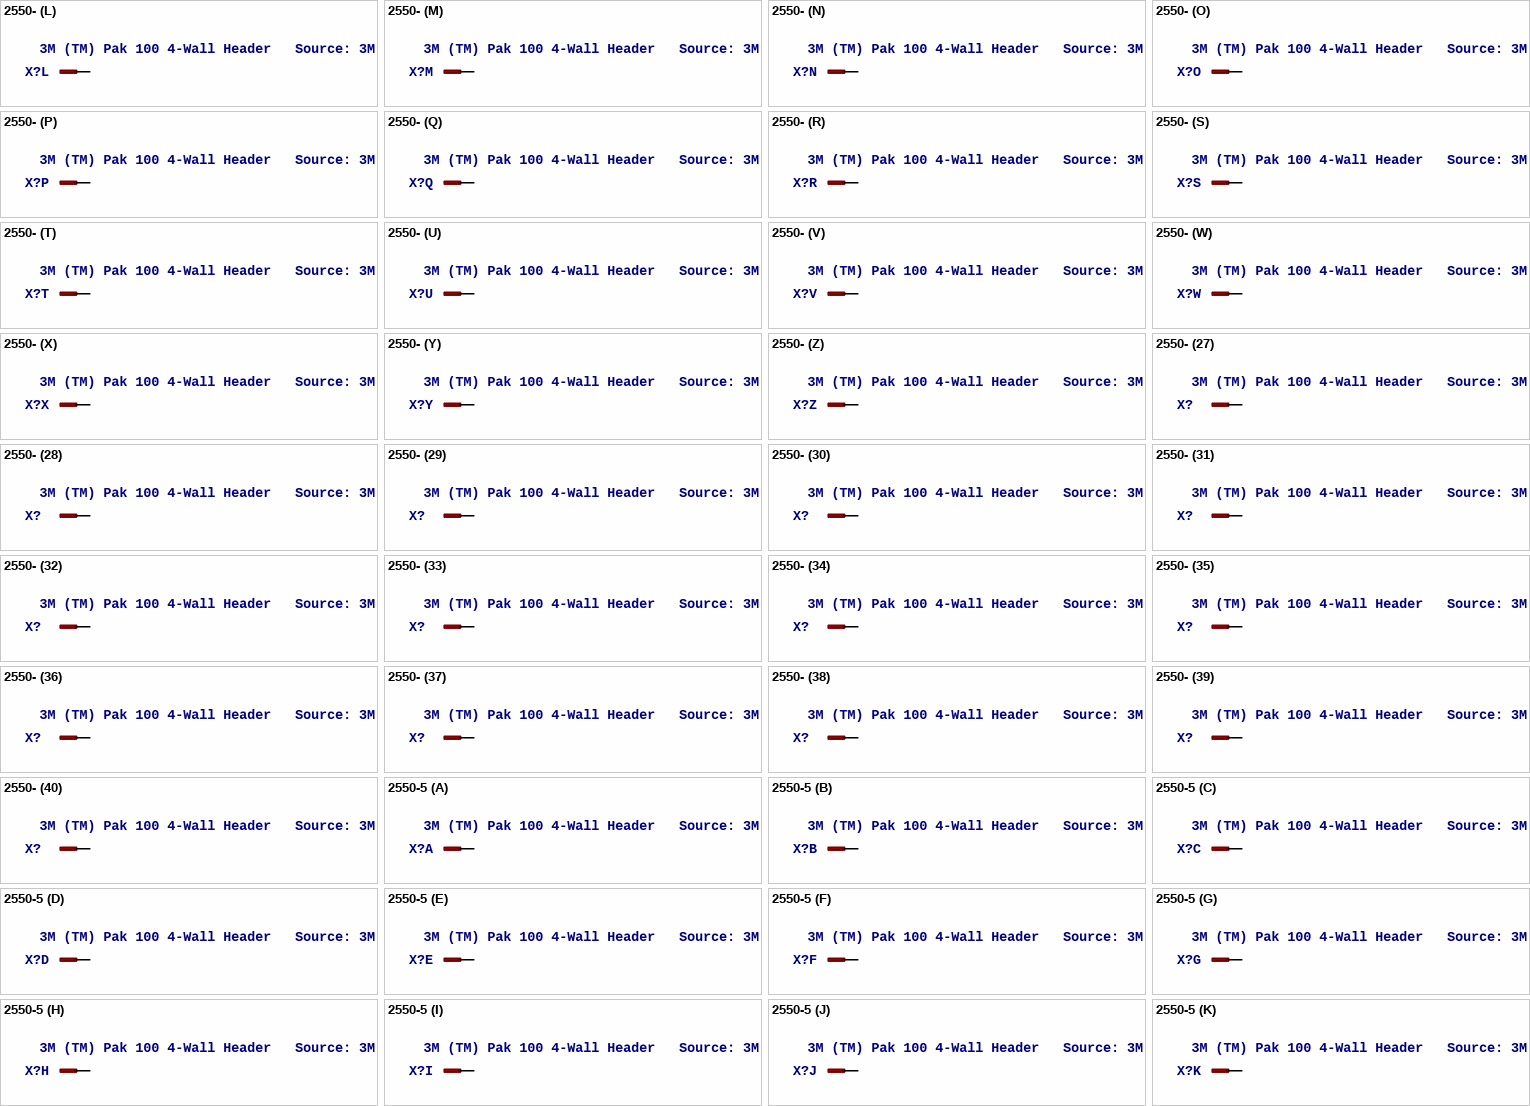
[diagram p13: symbols 2550- to 2550-5]

## 2550-
designator X?, comment 3M (TM) Pak 100 4-Wall Header   Source: 3M
OC_FARNELL: unknown; OC_NEWARK: unknown
footprint PAK100/2500-50
part A pins: 1 KL
part B pins: 2 KL
part C pins: 3 KL
part D pins: 4 KL
part E pins: 5 KL
part F pins: 6 KL
part G pins: 7 KL
part H pins: 8 KL
part I pins: 9 KL
part J pins: 10 KL
part K pins: 11 KL
part L pins: 12 KL
part M pins: 13 KL
part N pins: 14 KL
part O pins: 15 KL
part P pins: 16 KL
part Q pins: 17 KL
part R pins: 18 KL
part S pins: 19 KL
part T pins: 20 KL
part U pins: 21 KL
part V pins: 22 KL
part W pins: 23 KL
part X pins: 24 KL
part Y pins: 25 KL
part Z pins: 26 KL
part 27 pins: 27 KL
part 28 pins: 28 KL
part 29 pins: 29 KL
part 30 pins: 30 KL
part 31 pins: 31 KL
part 32 pins: 32 KL
part 33 pins: 33 KL
part 34 pins: 34 KL
part 35 pins: 35 KL
part 36 pins: 36 KL
part 37 pins: 37 KL
part 38 pins: 38 KL
part 39 pins: 39 KL
part 40 pins: 40 KL
part 41 pins: 41 KL
part 42 pins: 42 KL
part 43 pins: 43 KL
part 44 pins: 44 KL
part 45 pins: 45 KL
part 46 pins: 46 KL
part 47 pins: 47 KL
part 48 pins: 48 KL
part 49 pins: 49 KL
part 50 pins: 50 KL

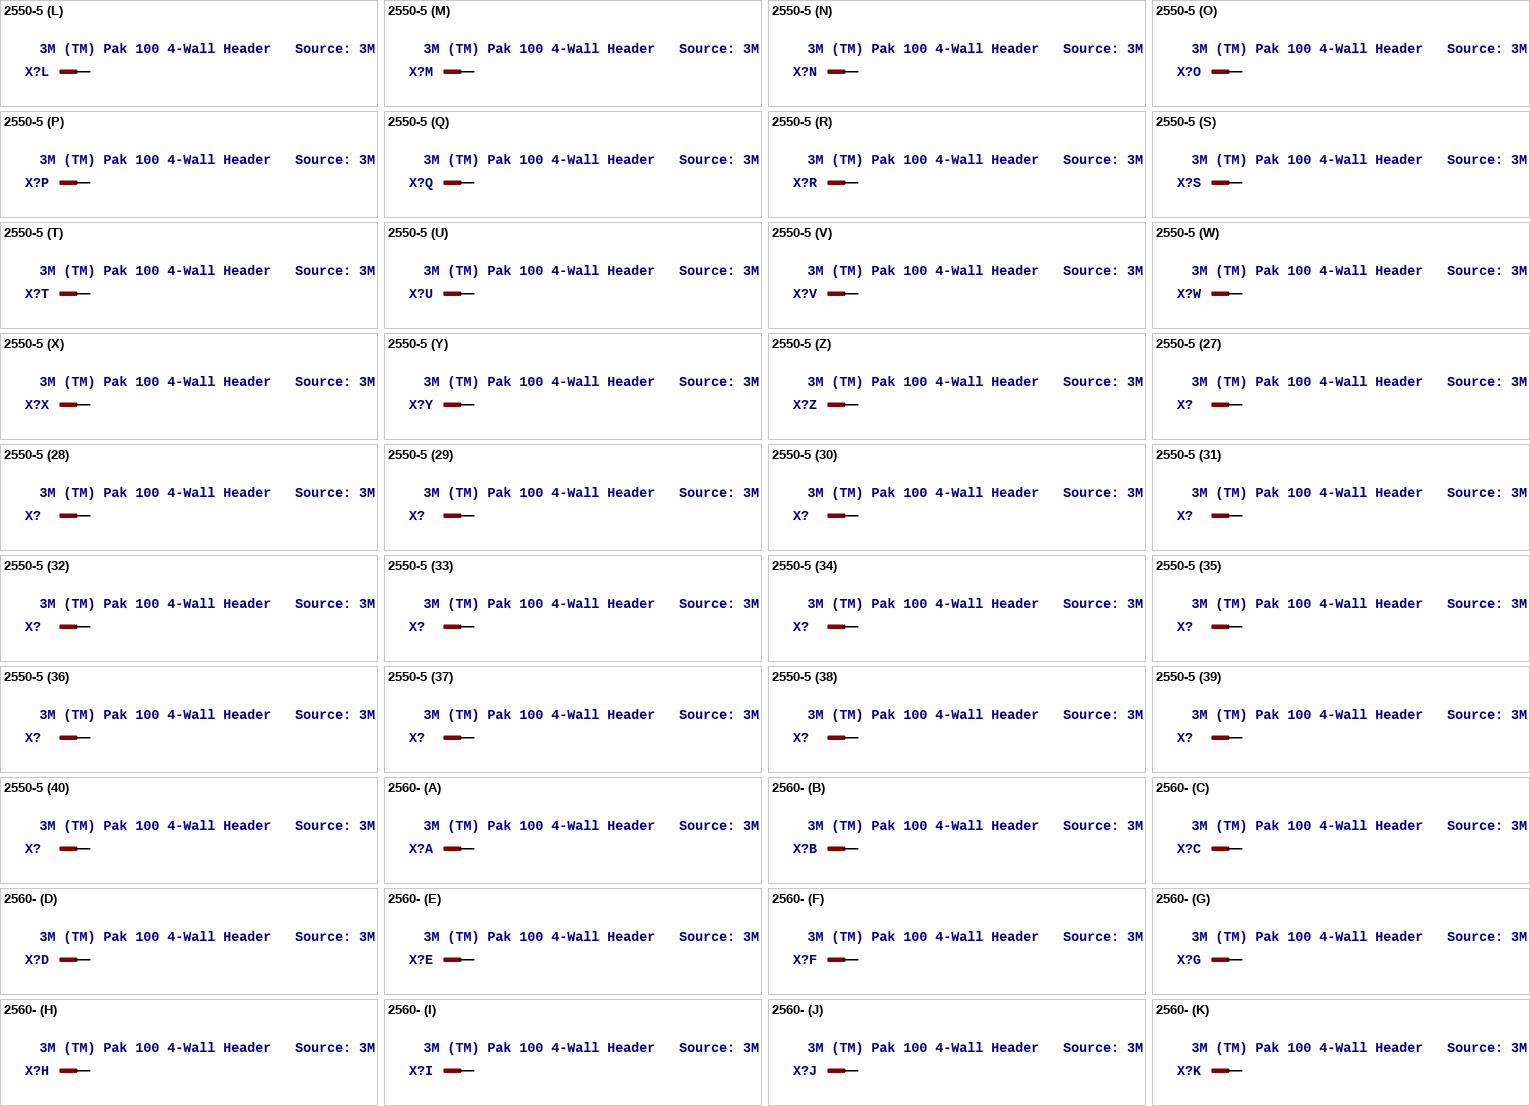
[diagram p14: symbols 2550-5 to 2560-]

## 2550-5
designator X?, comment 3M (TM) Pak 100 4-Wall Header   Source: 3M
OC_FARNELL: 1788696; OC_NEWARK: unknown
footprint PAK100/2500-5-50
part A pins: 1 KL
part B pins: 2 KL
part C pins: 3 KL
part D pins: 4 KL
part E pins: 5 KL
part F pins: 6 KL
part G pins: 7 KL
part H pins: 8 KL
part I pins: 9 KL
part J pins: 10 KL
part K pins: 11 KL
part L pins: 12 KL
part M pins: 13 KL
part N pins: 14 KL
part O pins: 15 KL
part P pins: 16 KL
part Q pins: 17 KL
part R pins: 18 KL
part S pins: 19 KL
part T pins: 20 KL
part U pins: 21 KL
part V pins: 22 KL
part W pins: 23 KL
part X pins: 24 KL
part Y pins: 25 KL
part Z pins: 26 KL
part 27 pins: 27 KL
part 28 pins: 28 KL
part 29 pins: 29 KL
part 30 pins: 30 KL
part 31 pins: 31 KL
part 32 pins: 32 KL
part 33 pins: 33 KL
part 34 pins: 34 KL
part 35 pins: 35 KL
part 36 pins: 36 KL
part 37 pins: 37 KL
part 38 pins: 38 KL
part 39 pins: 39 KL
part 40 pins: 40 KL
part 41 pins: 41 KL
part 42 pins: 42 KL
part 43 pins: 43 KL
part 44 pins: 44 KL
part 45 pins: 45 KL
part 46 pins: 46 KL
part 47 pins: 47 KL
part 48 pins: 48 KL
part 49 pins: 49 KL
part 50 pins: 50 KL

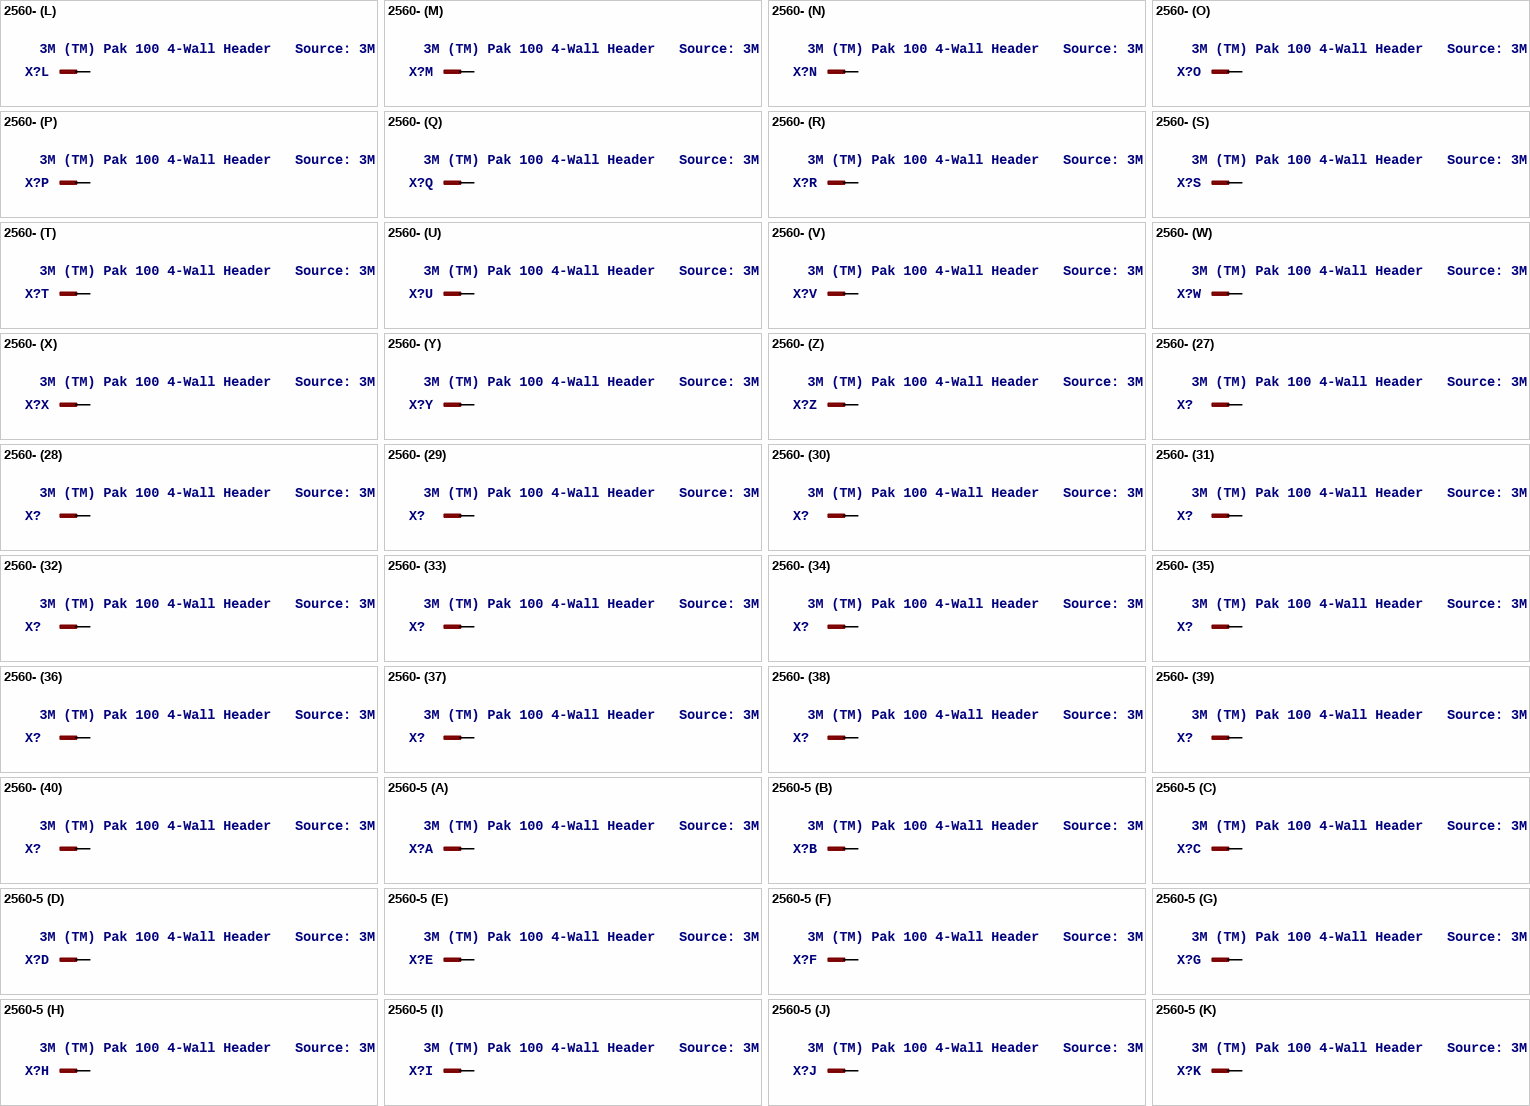
[diagram p15: symbols 2560- to 2560-5]

## 2560-
designator X?, comment 3M (TM) Pak 100 4-Wall Header   Source: 3M
OC_FARNELL: unknown; OC_NEWARK: unknown
footprint PAK100/2500-60
part A pins: 1 KL
part B pins: 2 KL
part C pins: 3 KL
part D pins: 4 KL
part E pins: 5 KL
part F pins: 6 KL
part G pins: 7 KL
part H pins: 8 KL
part I pins: 9 KL
part J pins: 10 KL
part K pins: 11 KL
part L pins: 12 KL
part M pins: 13 KL
part N pins: 14 KL
part O pins: 15 KL
part P pins: 16 KL
part Q pins: 17 KL
part R pins: 18 KL
part S pins: 19 KL
part T pins: 20 KL
part U pins: 21 KL
part V pins: 22 KL
part W pins: 23 KL
part X pins: 24 KL
part Y pins: 25 KL
part Z pins: 26 KL
part 27 pins: 27 KL
part 28 pins: 28 KL
part 29 pins: 29 KL
part 30 pins: 30 KL
part 31 pins: 31 KL
part 32 pins: 32 KL
part 33 pins: 33 KL
part 34 pins: 34 KL
part 35 pins: 35 KL
part 36 pins: 36 KL
part 37 pins: 37 KL
part 38 pins: 38 KL
part 39 pins: 39 KL
part 40 pins: 40 KL
part 41 pins: 41 KL
part 42 pins: 42 KL
part 43 pins: 43 KL
part 44 pins: 44 KL
part 45 pins: 45 KL
part 46 pins: 46 KL
part 47 pins: 47 KL
part 48 pins: 48 KL
part 49 pins: 49 KL
part 50 pins: 50 KL
part 51 pins: 51 KL
part 52 pins: 52 KL
part 53 pins: 53 KL
part 54 pins: 54 KL
part 55 pins: 55 KL
part 56 pins: 56 KL
part 57 pins: 57 KL
part 58 pins: 58 KL
part 59 pins: 59 KL
part 60 pins: 60 KL

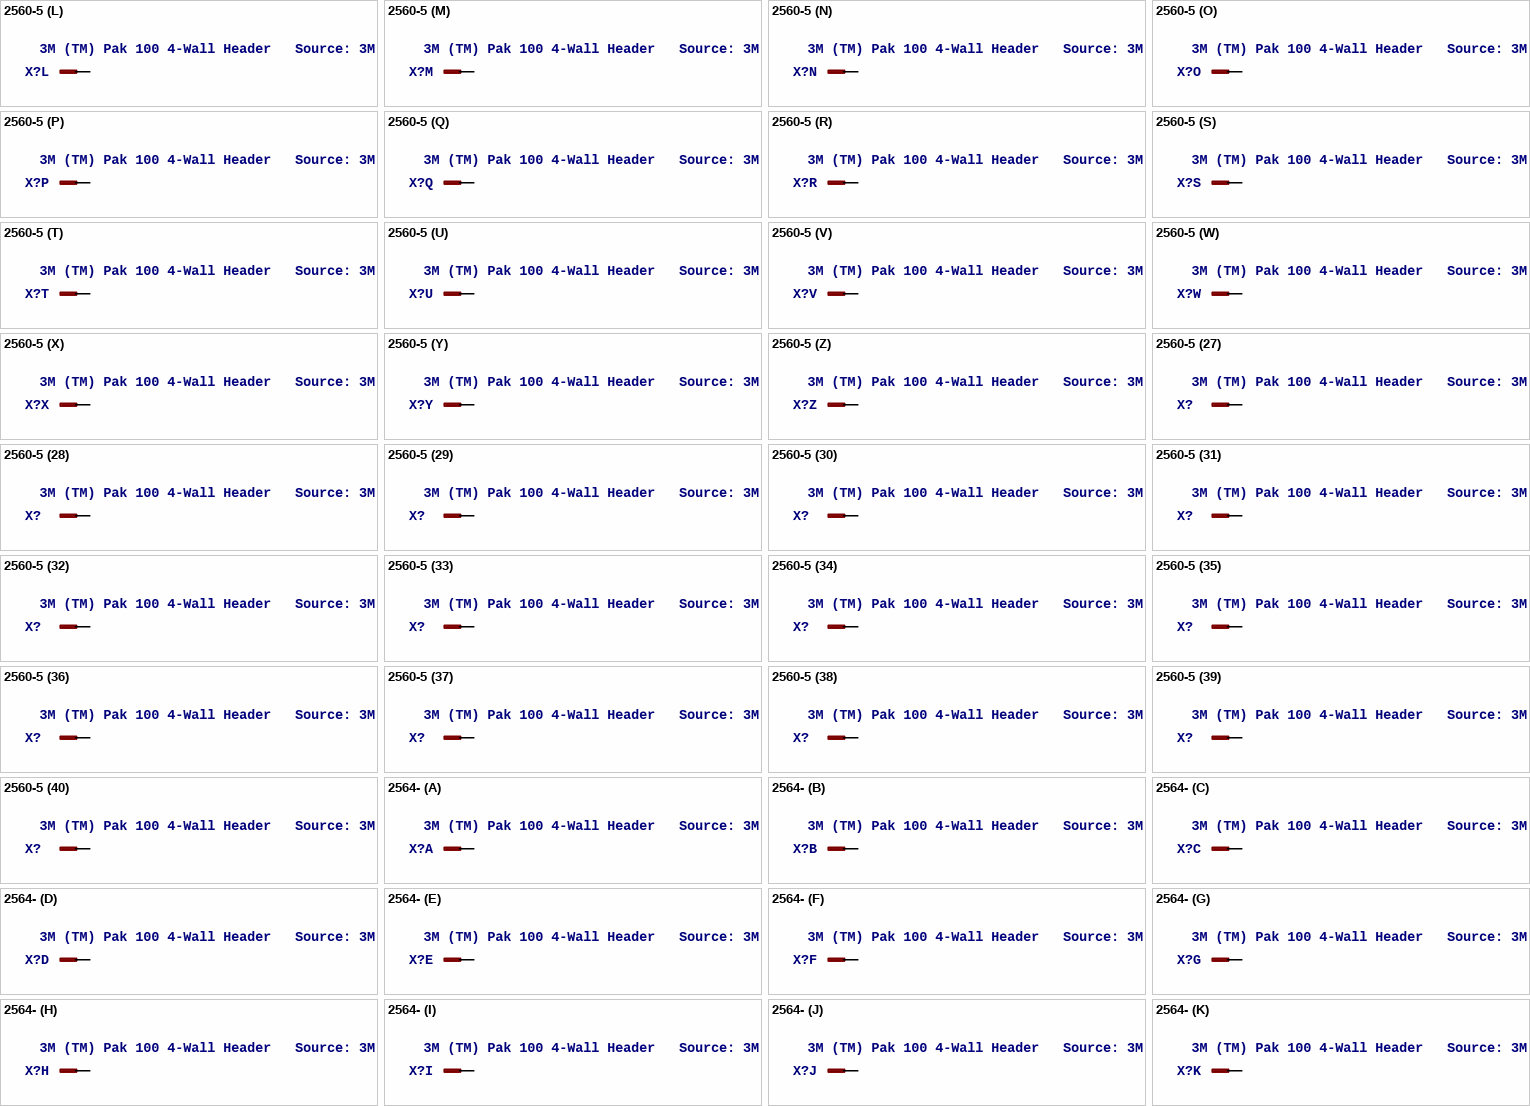
[diagram p16: symbols 2560-5 to 2564-]

## 2560-5
designator X?, comment 3M (TM) Pak 100 4-Wall Header   Source: 3M
OC_FARNELL: unknown; OC_NEWARK: unknown
footprint PAK100/2500-5-60
part A pins: 1 KL
part B pins: 2 KL
part C pins: 3 KL
part D pins: 4 KL
part E pins: 5 KL
part F pins: 6 KL
part G pins: 7 KL
part H pins: 8 KL
part I pins: 9 KL
part J pins: 10 KL
part K pins: 11 KL
part L pins: 12 KL
part M pins: 13 KL
part N pins: 14 KL
part O pins: 15 KL
part P pins: 16 KL
part Q pins: 17 KL
part R pins: 18 KL
part S pins: 19 KL
part T pins: 20 KL
part U pins: 21 KL
part V pins: 22 KL
part W pins: 23 KL
part X pins: 24 KL
part Y pins: 25 KL
part Z pins: 26 KL
part 27 pins: 27 KL
part 28 pins: 28 KL
part 29 pins: 29 KL
part 30 pins: 30 KL
part 31 pins: 31 KL
part 32 pins: 32 KL
part 33 pins: 33 KL
part 34 pins: 34 KL
part 35 pins: 35 KL
part 36 pins: 36 KL
part 37 pins: 37 KL
part 38 pins: 38 KL
part 39 pins: 39 KL
part 40 pins: 40 KL
part 41 pins: 41 KL
part 42 pins: 42 KL
part 43 pins: 43 KL
part 44 pins: 44 KL
part 45 pins: 45 KL
part 46 pins: 46 KL
part 47 pins: 47 KL
part 48 pins: 48 KL
part 49 pins: 49 KL
part 50 pins: 50 KL
part 51 pins: 51 KL
part 52 pins: 52 KL
part 53 pins: 53 KL
part 54 pins: 54 KL
part 55 pins: 55 KL
part 56 pins: 56 KL
part 57 pins: 57 KL
part 58 pins: 58 KL
part 59 pins: 59 KL
part 60 pins: 60 KL

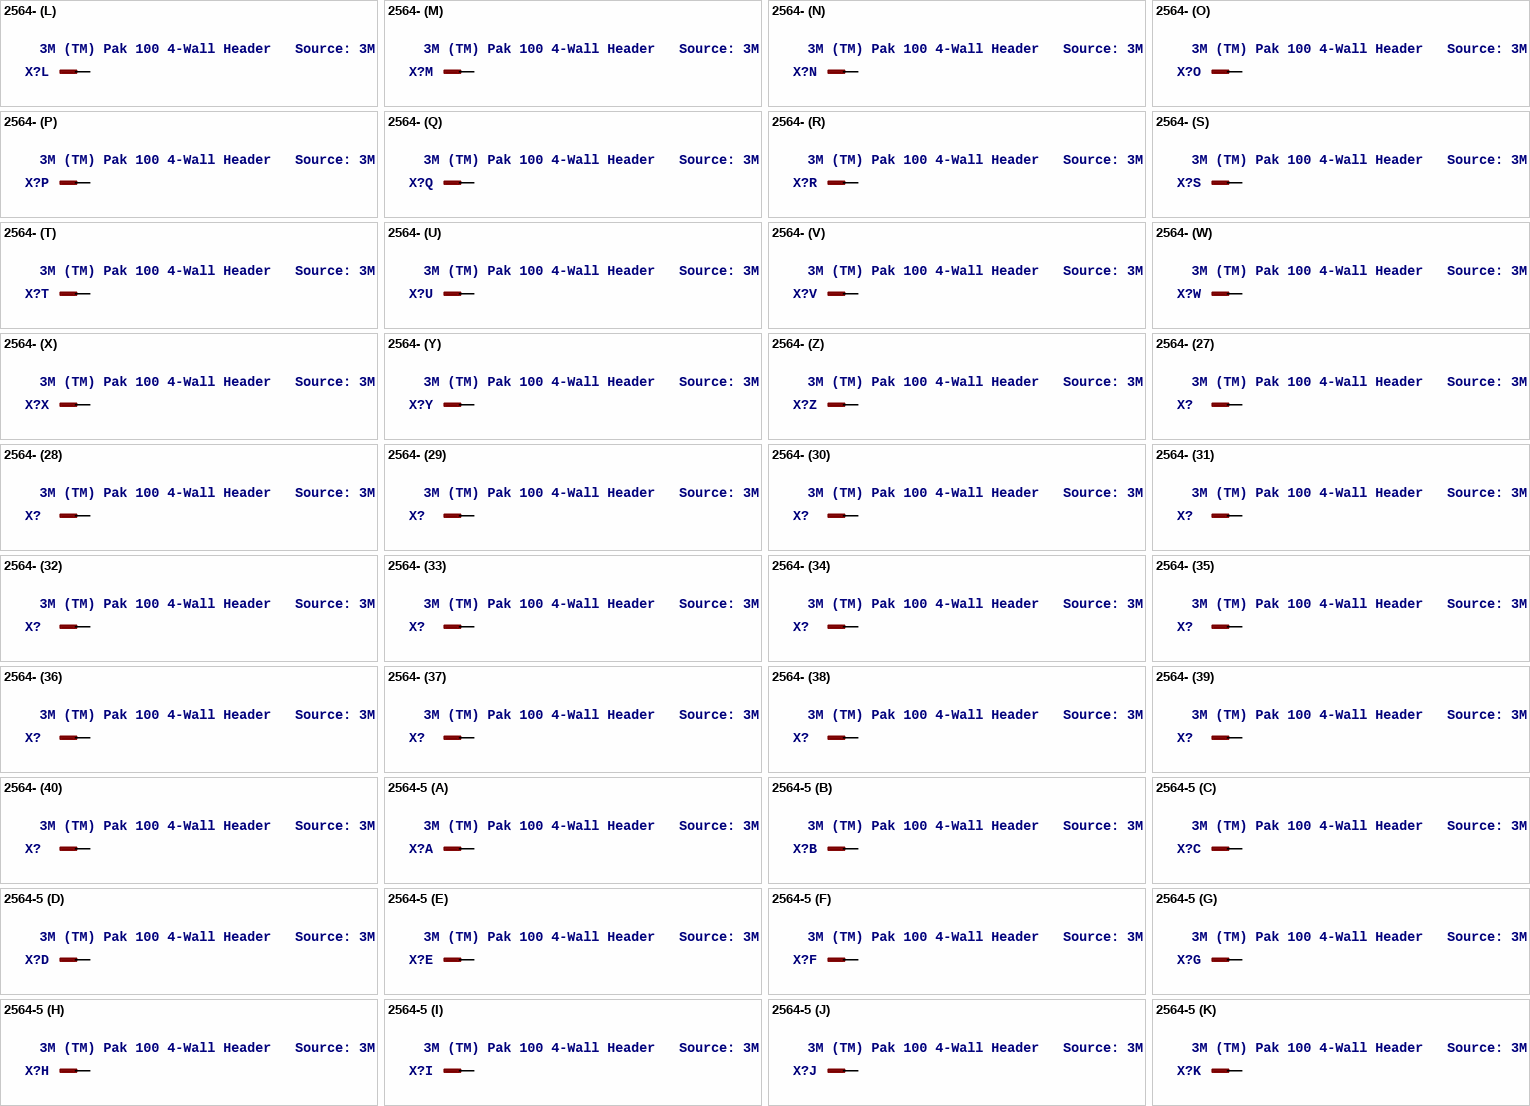
[diagram p17: symbols 2564- to 2564-5]

## 2564-
designator X?, comment 3M (TM) Pak 100 4-Wall Header   Source: 3M
OC_FARNELL: unknown; OC_NEWARK: unknown
footprint PAK100/2500-64
part A pins: 1 KL
part B pins: 2 KL
part C pins: 3 KL
part D pins: 4 KL
part E pins: 5 KL
part F pins: 6 KL
part G pins: 7 KL
part H pins: 8 KL
part I pins: 9 KL
part J pins: 10 KL
part K pins: 11 KL
part L pins: 12 KL
part M pins: 13 KL
part N pins: 14 KL
part O pins: 15 KL
part P pins: 16 KL
part Q pins: 17 KL
part R pins: 18 KL
part S pins: 19 KL
part T pins: 20 KL
part U pins: 21 KL
part V pins: 22 KL
part W pins: 23 KL
part X pins: 24 KL
part Y pins: 25 KL
part Z pins: 26 KL
part 27 pins: 27 KL
part 28 pins: 28 KL
part 29 pins: 29 KL
part 30 pins: 30 KL
part 31 pins: 31 KL
part 32 pins: 32 KL
part 33 pins: 33 KL
part 34 pins: 34 KL
part 35 pins: 35 KL
part 36 pins: 36 KL
part 37 pins: 37 KL
part 38 pins: 38 KL
part 39 pins: 39 KL
part 40 pins: 40 KL
part 41 pins: 41 KL
part 42 pins: 42 KL
part 43 pins: 43 KL
part 44 pins: 44 KL
part 45 pins: 45 KL
part 46 pins: 46 KL
part 47 pins: 47 KL
part 48 pins: 48 KL
part 49 pins: 49 KL
part 50 pins: 50 KL
part 51 pins: 51 KL
part 52 pins: 52 KL
part 53 pins: 53 KL
part 54 pins: 54 KL
part 55 pins: 55 KL
part 56 pins: 56 KL
part 57 pins: 57 KL
part 58 pins: 58 KL
part 59 pins: 59 KL
part 60 pins: 60 KL
part 61 pins: 61 KL
part 62 pins: 62 KL
part 63 pins: 63 KL
part 64 pins: 64 KL

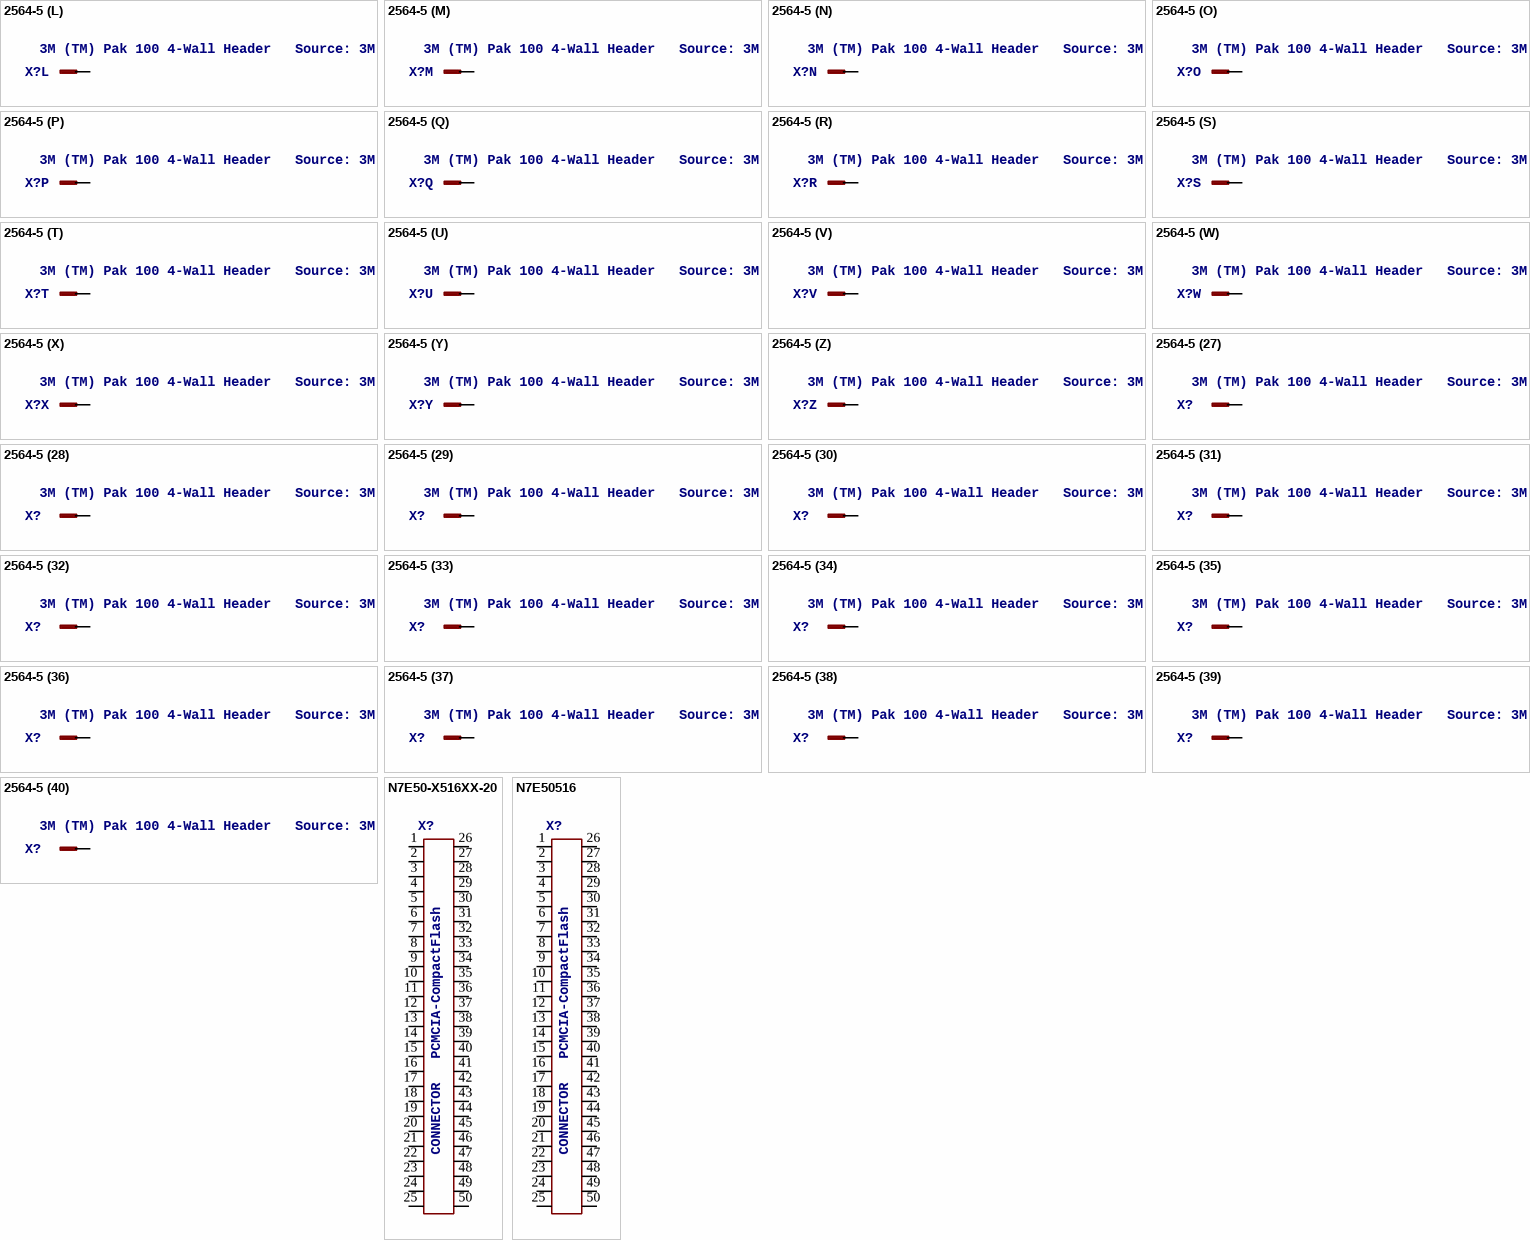
[diagram p18: symbols 2564-5 to N7E50516]

## 2564-5
designator X?, comment 3M (TM) Pak 100 4-Wall Header   Source: 3M
MPN: N2564-5002RB; MF: 3M; OC_FARNELL: unknown; OC_NEWARK: 18M6813
footprint PAK100/2500-5-64
part A pins: 1 KL
part B pins: 2 KL
part C pins: 3 KL
part D pins: 4 KL
part E pins: 5 KL
part F pins: 6 KL
part G pins: 7 KL
part H pins: 8 KL
part I pins: 9 KL
part J pins: 10 KL
part K pins: 11 KL
part L pins: 12 KL
part M pins: 13 KL
part N pins: 14 KL
part O pins: 15 KL
part P pins: 16 KL
part Q pins: 17 KL
part R pins: 18 KL
part S pins: 19 KL
part T pins: 20 KL
part U pins: 21 KL
part V pins: 22 KL
part W pins: 23 KL
part X pins: 24 KL
part Y pins: 25 KL
part Z pins: 26 KL
part 27 pins: 27 KL
part 28 pins: 28 KL
part 29 pins: 29 KL
part 30 pins: 30 KL
part 31 pins: 31 KL
part 32 pins: 32 KL
part 33 pins: 33 KL
part 34 pins: 34 KL
part 35 pins: 35 KL
part 36 pins: 36 KL
part 37 pins: 37 KL
part 38 pins: 38 KL
part 39 pins: 39 KL
part 40 pins: 40 KL
part 41 pins: 41 KL
part 42 pins: 42 KL
part 43 pins: 43 KL
part 44 pins: 44 KL
part 45 pins: 45 KL
part 46 pins: 46 KL
part 47 pins: 47 KL
part 48 pins: 48 KL
part 49 pins: 49 KL
part 50 pins: 50 KL
part 51 pins: 51 KL
part 52 pins: 52 KL
part 53 pins: 53 KL
part 54 pins: 54 KL
part 55 pins: 55 KL
part 56 pins: 56 KL
part 57 pins: 57 KL
part 58 pins: 58 KL
part 59 pins: 59 KL
part 60 pins: 60 KL
part 61 pins: 61 KL
part 62 pins: 62 KL
part 63 pins: 63 KL
part 64 pins: 64 KL

## N7E50-X516XX-20
designator X?, comment CONNECTOR   PCMCIA-CompactFlash
OC_FARNELL: unknown; OC_NEWARK: unknown
footprint N7E50-X516XX-20
pins: 1, 2, 3, 4, 5, 6, 7, 8, 9, 10, 11, 12, 13, 14, 15, 16, 17, 18, 19, 20, 21, 22, 23, 24, 25, 26, 27, 28, 29, 30, 31, 32, 33, 34, 35, 36, 37, 38, 39, 40, 41, 42, 43, 44, 45, 46, 47, 48, 49, 50

## N7E50516
designator X?, comment CONNECTOR   PCMCIA-CompactFlash
OC_FARNELL: unknown; OC_NEWARK: unknown
footprint N7E50516
pins: 1, 2, 3, 4, 5, 6, 7, 8, 9, 10, 11, 12, 13, 14, 15, 16, 17, 18, 19, 20, 21, 22, 23, 24, 25, 26, 27, 28, 29, 30, 31, 32, 33, 34, 35, 36, 37, 38, 39, 40, 41, 42, 43, 44, 45, 46, 47, 48, 49, 50